# Altium schematic symbol library CHXXX.schlib: 489 symbols (part 6 of 7)
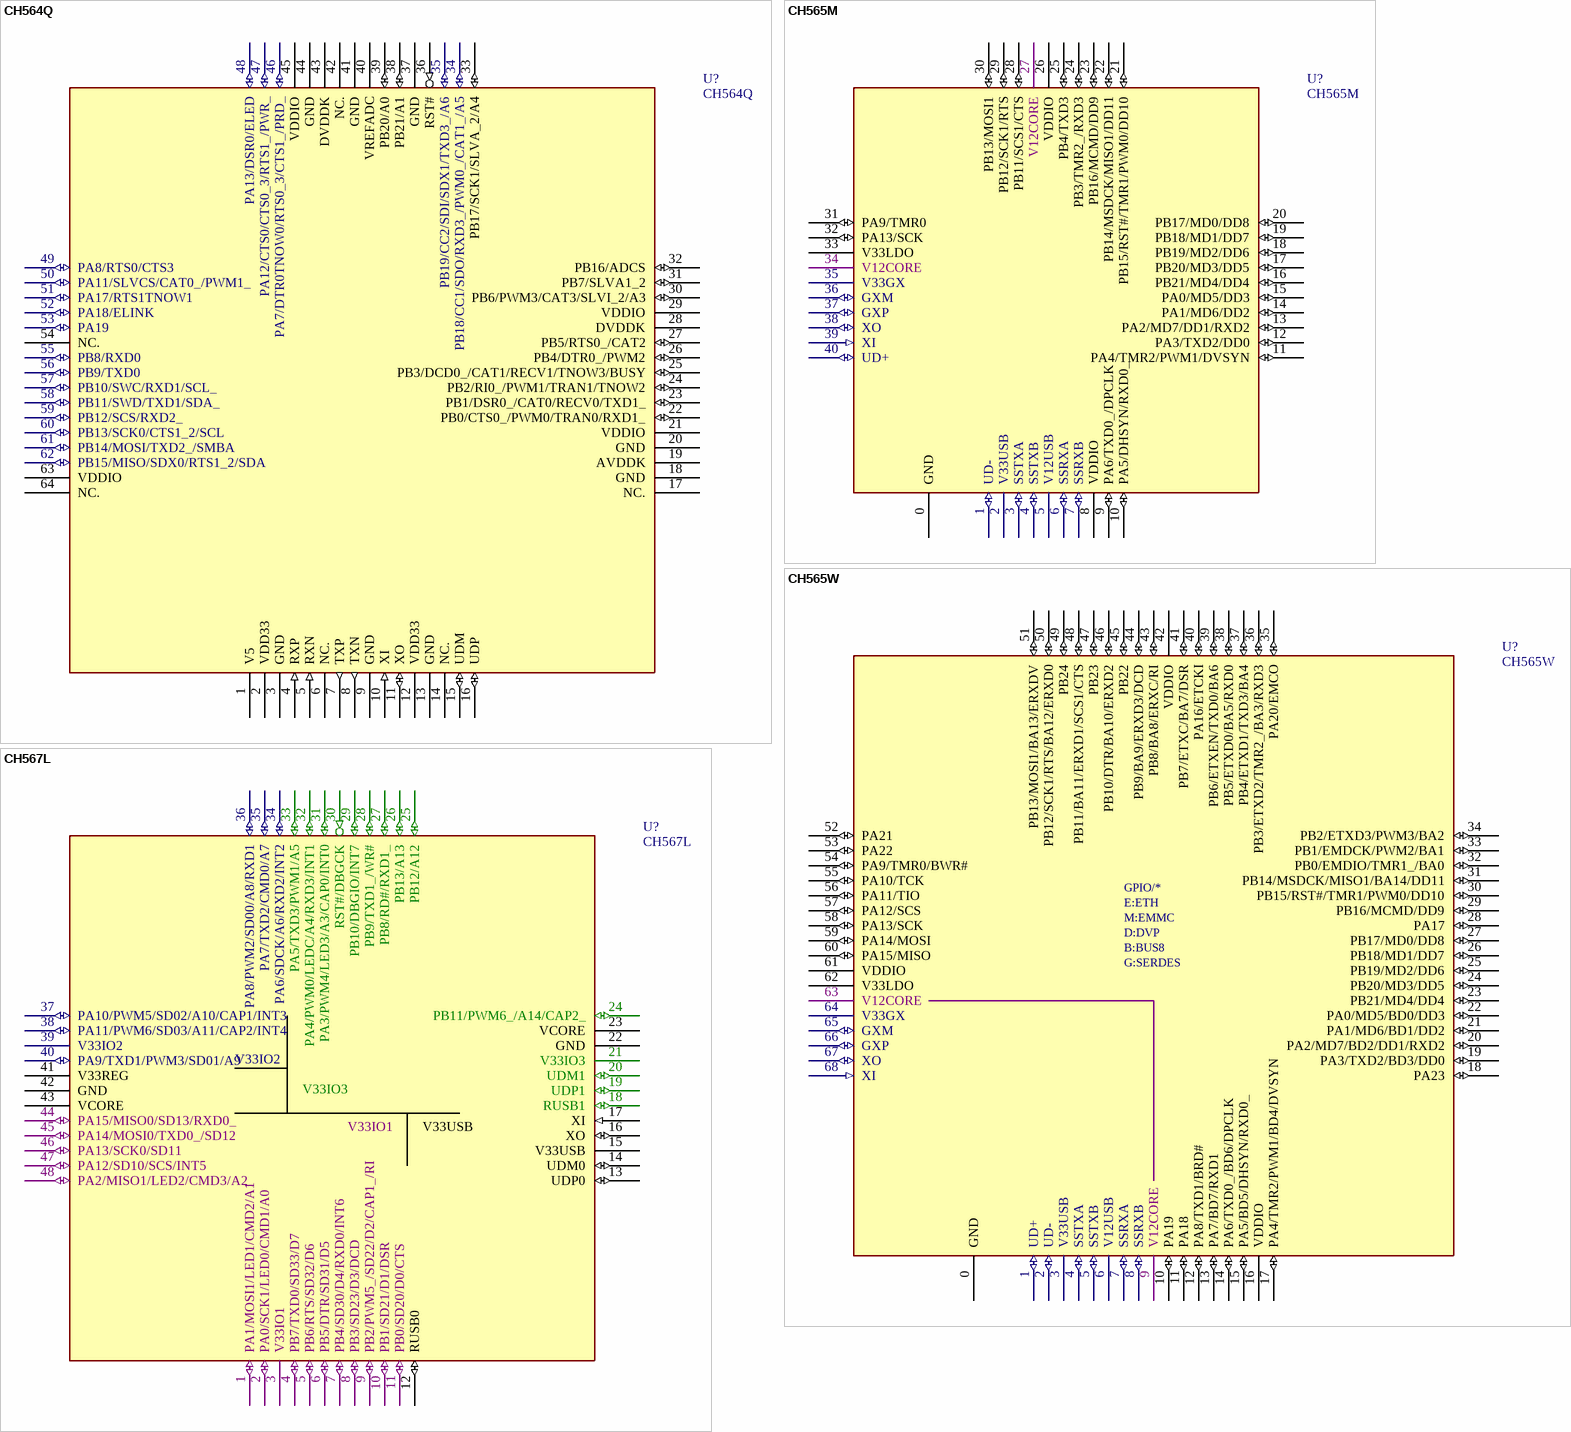
[diagram p67: symbols CH564Q to CH567L]

## CH567L
designator U?
32bit MCU with dual USB OTG 2.0 & quad SDIO & quad UART & AES
footprint LQFP48
pins: 1 PA1/MOSI1/LED1/CMD2/A1 (io), 2 PA0/SCK1/LED0/CMD1/A0 (io), 3 V33IO1 (power), 4 PB7/TXD0/SD33/D7 (io), 5 PB6/RTS/SD32/D6 (io), 6 PB5/DTR/SD31/D5 (io), 7 PB4/SD30/D4/RXD0/INT6 (io), 8 PB3/SD23/D3/DCD (io), 9 PB2/PWM5_/SD22/D2/CAP1_/RI (io), 10 PB1/SD21/D1/DSR (io), 11 PB0/SD20/D0/CTS (io), 12 RUSB0 (io), 13 UDP0 (io), 14 UDM0 (io), 15 V33USB (power), 16 XO (io), 17 XI (in), 18 RUSB1 (io), 19 UDP1 (io), 20 UDM1 (io), 21 V33IO3 (power), 22 GND (power), 23 VCORE (power), 24 PB11/PWM6_/A14/CAP2_ (io), 25 PB12/A12 (io), 26 PB13/A13 (io), 27 PB8/RD#/RXD1_ (io), 28 PB9/TXD1_/WR# (io), 29 PB10/DBGIO/INT7 (io), 30 RST#/DBGCK (in), 31 PA3/PWM4/LED3/A3/CAP0/INT0 (io), 32 PA4/PWM0/LEDC/A4/RXD3/INT1 (io), 33 PA5/TXD3/PWM1/A5 (io), 34 PA6/SDCK/A6/RXD2/INT2 (io), 35 PA7/TXD2/CMD0/A7 (io), 36 PA8/PWM2/SD00/A8/RXD1 (io), 37 PA10/PWM5/SD02/A10/CAP1/INT3 (io), 38 PA11/PWM6/SD03/A11/CAP2/INT4 (io), 39 V33IO2 (power), 40 PA9/TXD1/PWM3/SD01/A9 (io), 41 V33REG (power), 42 GND (power), 43 VCORE (power), 44 PA15/MISO0/SD13/RXD0_ (io), 45 PA14/MOSI0/TXD0_/SD12 (io), 46 PA13/SCK0/SD11 (io), 47 PA12/SD10/SCS/INT5 (io), 48 PA2/MISO1/LED2/CMD3/A2 (io)

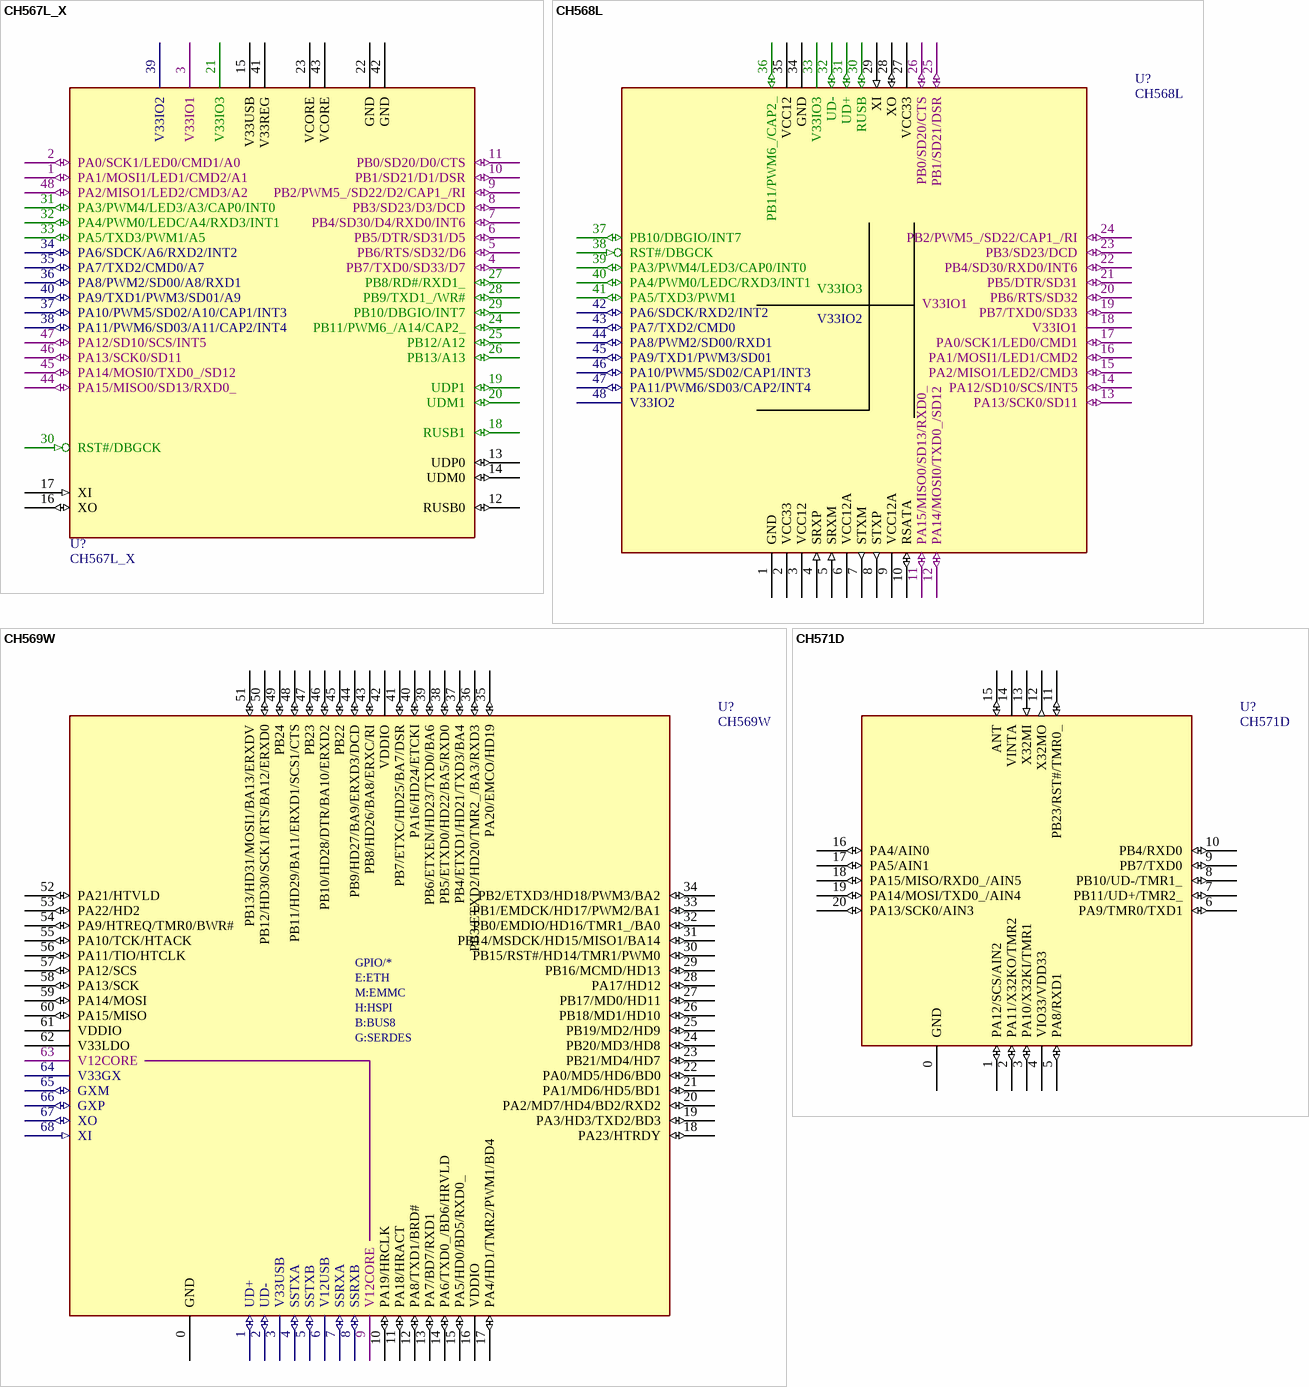
[diagram p46: symbols CH567L_X to CH571D]

## CH567L_X
designator U?
32bit MCU with dual USB OTG 2.0 & quad SDIO & quad UART & AES
footprint LQFP48
pins: 1 PA1/MOSI1/LED1/CMD2/A1 (io), 2 PA0/SCK1/LED0/CMD1/A0 (io), 3 V33IO1 (power), 4 PB7/TXD0/SD33/D7 (io), 5 PB6/RTS/SD32/D6 (io), 6 PB5/DTR/SD31/D5 (io), 7 PB4/SD30/D4/RXD0/INT6 (io), 8 PB3/SD23/D3/DCD (io), 9 PB2/PWM5_/SD22/D2/CAP1_/RI (io), 10 PB1/SD21/D1/DSR (io), 11 PB0/SD20/D0/CTS (io), 12 RUSB0 (io), 13 UDP0 (io), 14 UDM0 (io), 15 V33USB (power), 16 XO (io), 17 XI (in), 18 RUSB1 (io), 19 UDP1 (io), 20 UDM1 (io), 21 V33IO3 (power), 22 GND (power), 23 VCORE (power), 24 PB11/PWM6_/A14/CAP2_ (io), 25 PB12/A12 (io), 26 PB13/A13 (io), 27 PB8/RD#/RXD1_ (io), 28 PB9/TXD1_/WR# (io), 29 PB10/DBGIO/INT7 (io), 30 RST#/DBGCK (in), 31 PA3/PWM4/LED3/A3/CAP0/INT0 (io), 32 PA4/PWM0/LEDC/A4/RXD3/INT1 (io), 33 PA5/TXD3/PWM1/A5 (io), 34 PA6/SDCK/A6/RXD2/INT2 (io), 35 PA7/TXD2/CMD0/A7 (io), 36 PA8/PWM2/SD00/A8/RXD1 (io), 37 PA10/PWM5/SD02/A10/CAP1/INT3 (io), 38 PA11/PWM6/SD03/A11/CAP2/INT4 (io), 39 V33IO2 (power), 40 PA9/TXD1/PWM3/SD01/A9 (io), 41 V33REG (power), 42 GND (power), 43 VCORE (power), 44 PA15/MISO0/SD13/RXD0_ (io), 45 PA14/MOSI0/TXD0_/SD12 (io), 46 PA13/SCK0/SD11 (io), 47 PA12/SD10/SCS/INT5 (io), 48 PA2/MISO1/LED2/CMD3/A2 (io)

## CH568L
designator U?
32bit MCU with USB OTG 2.0 & SATA G2 & quad SDIO & quad UART & AES
footprint LQFP48
pins: 1 GND (power), 2 VCC33 (power), 3 VCC12 (power), 4 SRXP (in), 5 SRXM (in), 6 VCC12A (power), 7 STXM (out), 8 STXP (out), 9 VCC12A (power), 10 RSATA (io), 11 PA15/MISO0/SD13/RXD0_ (io), 12 PA14/MOSI0/TXD0_/SD12 (io), 13 PA13/SCK0/SD11 (io), 14 PA12/SD10/SCS/INT5 (io), 15 PA2/MISO1/LED2/CMD3 (io), 16 PA1/MOSI1/LED1/CMD2 (io), 17 PA0/SCK1/LED0/CMD1 (io), 18 V33IO1 (power), 19 PB7/TXD0/SD33 (io), 20 PB6/RTS/SD32 (io), 21 PB5/DTR/SD31 (io), 22 PB4/SD30/RXD0/INT6 (io), 23 PB3/SD23/DCD (io), 24 PB2/PWM5_/SD22/CAP1_/RI (io), 25 PB1/SD21/DSR (io), 26 PB0/SD20/CTS (io), 27 VCC33 (power), 28 XO (io), 29 XI (in), 30 RUSB (io), 31 UD+ (io), 32 UD- (io), 33 V33IO3 (power), 34 GND (power), 35 VCC12 (power), 36 PB11/PWM6_/CAP2_ (io), 37 PB10/DBGIO/INT7 (io), 38 RST#/DBGCK (in), 39 PA3/PWM4/LED3/CAP0/INT0 (io), 40 PA4/PWM0/LEDC/RXD3/INT1 (io), 41 PA5/TXD3/PWM1 (io), 42 PA6/SDCK/RXD2/INT2 (io), 43 PA7/TXD2/CMD0 (io), 44 PA8/PWM2/SD00/RXD1 (io), 45 PA9/TXD1/PWM3/SD01 (io), 46 PA10/PWM5/SD02/CAP1/INT3 (io), 47 PA11/PWM6/SD03/CAP2/INT4 (io), 48 V33IO2 (power)

## CH569W
designator U?
32bit RISC-V MCU with USB 3.0 SS/HS & 4*UART & ETH & HSPI
footprint QFN68_8X8
pins: 0 GND (power), 1 UD+ (io), 2 UD- (io), 3 V33USB (power), 4 SSTXA (io), 5 SSTXB (io), 6 V12USB (power), 7 SSRXA (io), 8 SSRXB (io), 9 V12CORE (power), 10 PA19/HRCLK (io), 11 PA18/HRACT (io), 12 PA8/TXD1/BRD# (io), 13 PA7/BD7/RXD1 (io), 14 PA6/TXD0_/BD6/HRVLD (io), 15 PA5/HD0/BD5/RXD0_ (io), 16 VDDIO (power), 17 PA4/HD1/TMR2/PWM1/BD4 (io), 18 PA23/HTRDY (io), 19 PA3/HD3/TXD2/BD3 (io), 20 PA2/MD7/HD4/BD2/RXD2 (io), 21 PA1/MD6/HD5/BD1 (io), 22 PA0/MD5/HD6/BD0 (io), 23 PB21/MD4/HD7 (io), 24 PB20/MD3/HD8 (io), 25 PB19/MD2/HD9 (io), 26 PB18/MD1/HD10 (io), 27 PB17/MD0/HD11 (io), 28 PA17/HD12 (io), 29 PB16/MCMD/HD13 (io), 30 PB15/RST#/HD14/TMR1/PWM0 (io), 31 PB14/MSDCK/HD15/MISO1/BA14 (io), 32 PB0/EMDIO/HD16/TMR1_/BA0 (io), 33 PB1/EMDCK/HD17/PWM2/BA1 (io), 34 PB2/ETXD3/HD18/PWM3/BA2 (io), 35 PA20/EMCO/HD19 (io), 36 PB3/ETXD2/HD20/TMR2_/BA3/RXD3 (io), 37 PB4/ETXD1/HD21/TXD3/BA4 (io), 38 PB5/ETXD0/HD22/BA5/RXD0 (io), 39 PB6/ETXEN/HD23/TXD0/BA6 (io), 40 PA16/HD24/ETCKI (io), 41 PB7/ETXC/HD25/BA7/DSR (io), 42 VDDIO (power), 43 PB8/HD26/BA8/ERXC/RI (io), 44 PB9/HD27/BA9/ERXD3/DCD (io), 45 PB22 (io), 46 PB10/HD28/DTR/BA10/ERXD2 (io), 47 PB23 (io), 48 PB11/HD29/BA11/ERXD1/SCS1/CTS (io), 49 PB24 (io), 50 PB12/HD30/SCK1/RTS/BA12/ERXD0 (io), 51 PB13/HD31/MOSI1/BA13/ERXDV (io), 52 PA21/HTVLD (io), 53 PA22/HD2 (io), 54 PA9/HTREQ/TMR0/BWR# (io), 55 PA10/TCK/HTACK (io), 56 PA11/TIO/HTCLK (io), 57 PA12/SCS (io), 58 PA13/SCK (io), 59 PA14/MOSI (io), 60 PA15/MISO (io), 61 VDDIO (power), 62 V33LDO (power), 63 V12CORE (power), 64 V33GX (power), 65 GXM (io), 66 GXP (io), 67 XO (io), 68 XI (in)
2 alternate drawings of the same symbol
text: GPIO/*; E:ETH; M:EMMC; H:HSPI; B:BUS8; G:SERDES

## CH571D
designator U?
RISC-V MCU with BLE/USB/ADC/SPI/2*UART
footprint QFN20_3X3
pins: 0 GND (power), 1 PA12/SCS/AIN2 (io), 2 PA11/X32KO/TMR2 (io), 3 PA10/X32KI/TMR1 (io), 4 VIO33/VDD33 (power), 5 PA8/RXD1 (io), 6 PA9/TMR0/TXD1 (io), 7 PB11/UD+/TMR2_ (io), 8 PB10/UD-/TMR1_ (io), 9 PB7/TXD0 (io), 10 PB4/RXD0 (io), 11 PB23/RST#/TMR0_ (io), 12 X32MO (out), 13 X32MI (in), 14 VINTA (power), 15 ANT (io), 16 PA4/AIN0 (io), 17 PA5/AIN1 (io), 18 PA15/MISO/RXD0_/AIN5 (io), 19 PA14/MOSI/TXD0_/AIN4 (io), 20 PA13/SCK0/AIN3 (io)
2 alternate drawings of the same symbol

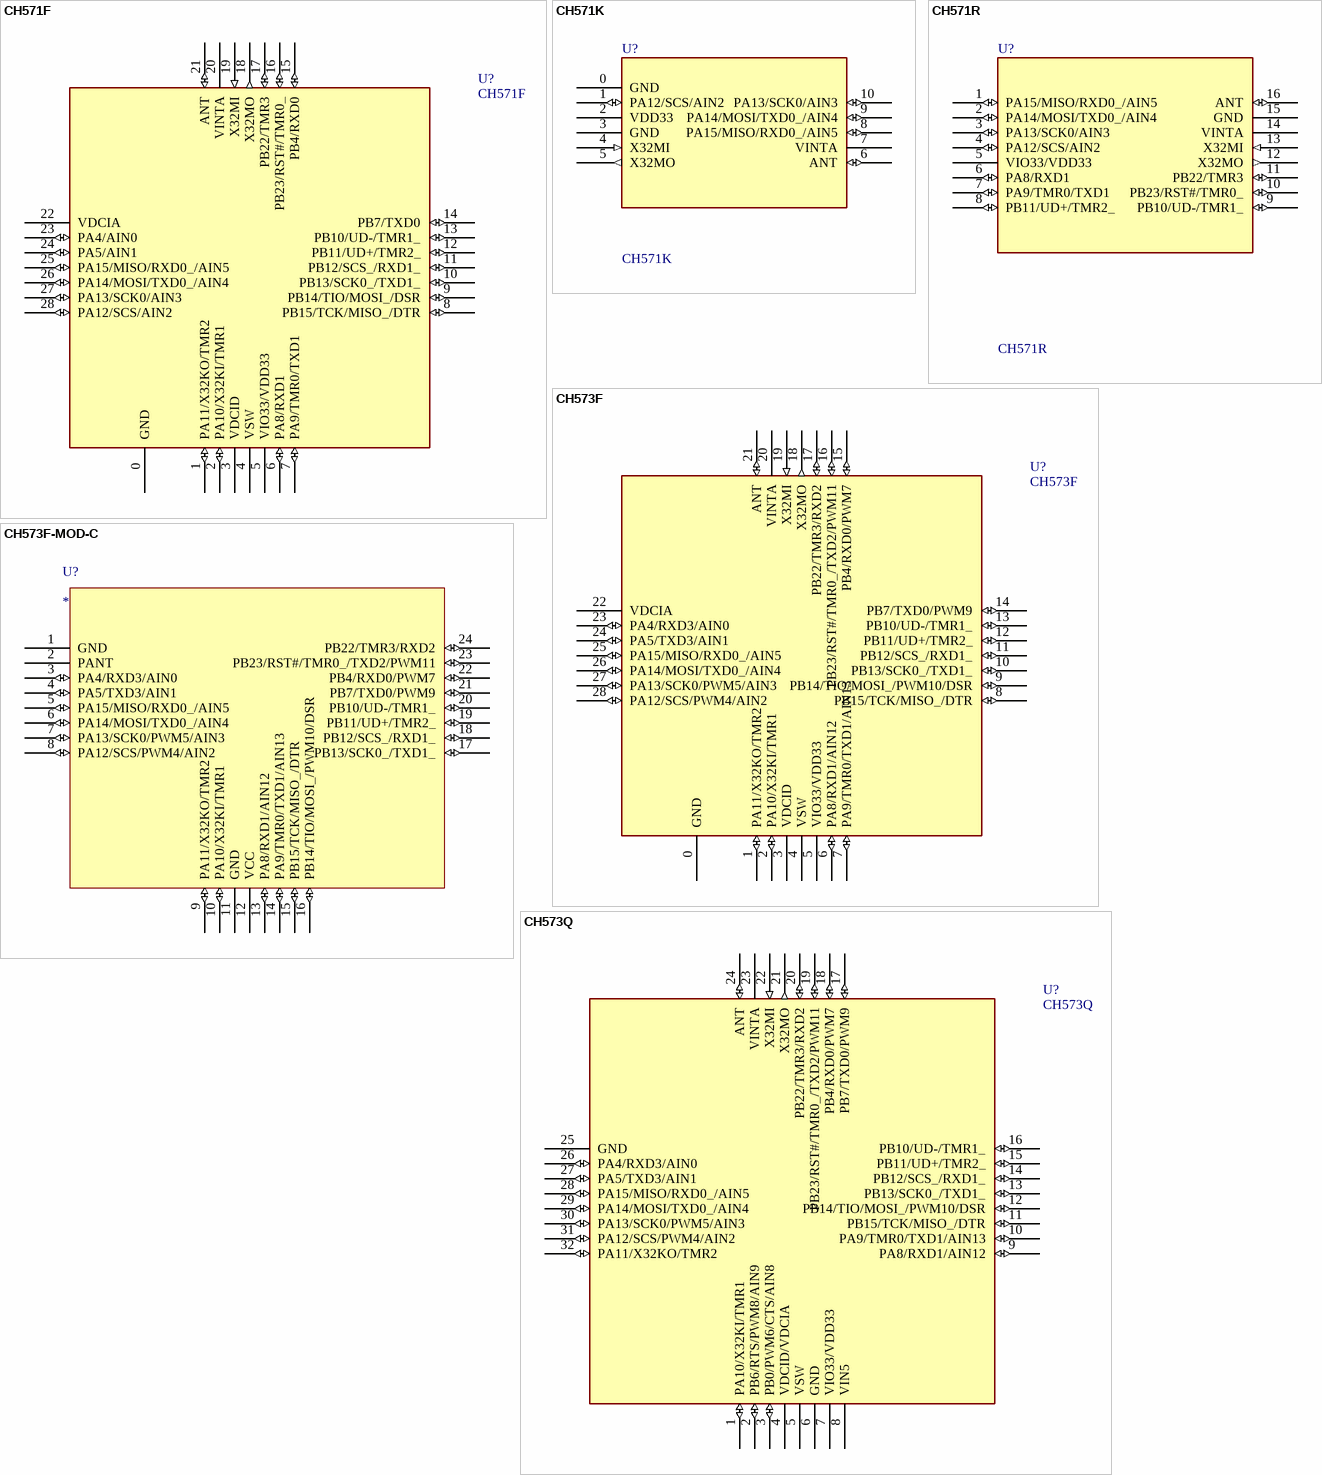
[diagram p47: symbols CH571F to CH573Q]

## CH571F
designator U?
RISC-V MCU with BLE/USB/ADC/SPI/2*UART
footprint QFN28_4X4
pins: 0 GND (power), 1 PA11/X32KO/TMR2 (io), 2 PA10/X32KI/TMR1 (io), 3 VDCID (power), 4 VSW (power), 5 VIO33/VDD33 (power), 6 PA8/RXD1 (io), 7 PA9/TMR0/TXD1 (io), 8 PB15/TCK/MISO_/DTR (io), 9 PB14/TIO/MOSI_/DSR (io), 10 PB13/SCK0_/TXD1_ (io), 11 PB12/SCS_/RXD1_ (io), 12 PB11/UD+/TMR2_ (io), 13 PB10/UD-/TMR1_ (io), 14 PB7/TXD0 (io), 15 PB4/RXD0 (io), 16 PB23/RST#/TMR0_ (io), 17 PB22/TMR3 (io), 18 X32MO (out), 19 X32MI (in), 20 VINTA (power), 21 ANT (io), 22 VDCIA (power), 23 PA4/AIN0 (io), 24 PA5/AIN1 (io), 25 PA15/MISO/RXD0_/AIN5 (io), 26 PA14/MOSI/TXD0_/AIN4 (io), 27 PA13/SCK0/AIN3 (io), 28 PA12/SCS/AIN2 (io)
2 alternate drawings of the same symbol

## CH571K
designator U?
RISC-V MCU with BLE/ADC/SPI/UART
footprint ESSOP10 (Footprint not found)
pins: 0 GND (power), 1 PA12/SCS/AIN2 (io), 2 VDD33 (power), 3 GND (power), 4 X32MI (in), 5 X32MO (out), 6 ANT (io), 7 VINTA (power), 8 PA15/MISO/RXD0_/AIN5 (io), 9 PA14/MOSI/TXD0_/AIN4 (io), 10 PA13/SCK0/AIN3 (io)
2 alternate drawings of the same symbol

## CH571R
designator U?
RISC-V MCU with BLE/USB/ADC/SPI/2*UART
footprint TSSOP16 (Footprint not found)
pins: 1 PA15/MISO/RXD0_/AIN5 (io), 2 PA14/MOSI/TXD0_/AIN4 (io), 3 PA13/SCK0/AIN3 (io), 4 PA12/SCS/AIN2 (io), 5 VIO33/VDD33 (power), 6 PA8/RXD1 (io), 7 PA9/TMR0/TXD1 (io), 8 PB11/UD+/TMR2_ (io), 9 PB10/UD-/TMR1_ (io), 10 PB23/RST#/TMR0_ (io), 11 PB22/TMR3 (io), 12 X32MO (out), 13 X32MI (in), 14 VINTA (power), 15 GND (power), 16 ANT (io)
2 alternate drawings of the same symbol

## CH573F
designator U?
RISC-V MCU with BLE/USB/ADC/SPI/4*UART
footprint QFN28_4X4
pins: 0 GND (power), 1 PA11/X32KO/TMR2 (io), 2 PA10/X32KI/TMR1 (io), 3 VDCID (power), 4 VSW (power), 5 VIO33/VDD33 (power), 6 PA8/RXD1/AIN12 (io), 7 PA9/TMR0/TXD1/AIN13 (io), 8 PB15/TCK/MISO_/DTR (io), 9 PB14/TIO/MOSI_/PWM10/DSR (io), 10 PB13/SCK0_/TXD1_ (io), 11 PB12/SCS_/RXD1_ (io), 12 PB11/UD+/TMR2_ (io), 13 PB10/UD-/TMR1_ (io), 14 PB7/TXD0/PWM9 (io), 15 PB4/RXD0/PWM7 (io), 16 PB23/RST#/TMR0_/TXD2/PWM11 (io), 17 PB22/TMR3/RXD2 (io), 18 X32MO (out), 19 X32MI (in), 20 VINTA (power), 21 ANT (io), 22 VDCIA (power), 23 PA4/RXD3/AIN0 (io), 24 PA5/TXD3/AIN1 (io), 25 PA15/MISO/RXD0_/AIN5 (io), 26 PA14/MOSI/TXD0_/AIN4 (io), 27 PA13/SCK0/PWM5/AIN3 (io), 28 PA12/SCS/PWM4/AIN2 (io)
2 alternate drawings of the same symbol

## CH573F-MOD-C
designator U?
CH573F module, RISC-V MCU with BLE/USB/ADC/SPI/4*UART
footprint BLEMOD-R2-1v0-24PIN
pins: 1 GND (power), 2 PANT, 3 PA4/RXD3/AIN0  (io), 4 PA5/TXD3/AIN1   (io), 5 PA15/MISO/RXD0_/AIN5   (io), 6 PA14/MOSI/TXD0_/AIN4 (io), 7 PA13/SCK0/PWM5/AIN3   (io), 8 PA12/SCS/PWM4/AIN2   (io), 9 PA11/X32KO/TMR2   (io), 10 PA10/X32KI/TMR1   (io), 11 GND (power), 12 VCC (power), 13 PA8/RXD1/AIN12   (io), 14 PA9/TMR0/TXD1/AIN13  (io), 15 PB15/TCK/MISO_/DTR (io), 16 PB14/TIO/MOSI_/PWM10/DSR (io), 17 PB13/SCK0_/TXD1_ (io), 18 PB12/SCS_/RXD1_ (io), 19 PB11/UD+/TMR2_ (io), 20 PB10/UD-/TMR1_ (io), 21 PB7/TXD0/PWM9 (io), 22 PB4/RXD0/PWM7 (io), 23 PB23/RST#/TMR0_/TXD2/PWM11 (io), 24 PB22/TMR3/RXD2 (io)

## CH573Q
designator U?
RISC-V MCU with BLE/USB/ADC/SPI/4*UART
footprint LQFP32 (Footprint not found)
pins: 1 PA10/X32KI/TMR1 (io), 2 PB6/RTS/PWM8/AIN9 (io), 3 PB0/PWM6/CTS/AIN8 (io), 4 VDCID/VDCIA (power), 5 VSW (power), 6 GND (power), 7 VIO33/VDD33 (power), 8 VIN5 (power), 9 PA8/RXD1/AIN12 (io), 10 PA9/TMR0/TXD1/AIN13 (io), 11 PB15/TCK/MISO_/DTR (io), 12 PB14/TIO/MOSI_/PWM10/DSR (io), 13 PB13/SCK0_/TXD1_ (io), 14 PB12/SCS_/RXD1_ (io), 15 PB11/UD+/TMR2_ (io), 16 PB10/UD-/TMR1_ (io), 17 PB7/TXD0/PWM9 (io), 18 PB4/RXD0/PWM7 (io), 19 PB23/RST#/TMR0_/TXD2/PWM11 (io), 20 PB22/TMR3/RXD2 (io), 21 X32MO (out), 22 X32MI (in), 23 VINTA (power), 24 ANT (io), 25 GND (power), 26 PA4/RXD3/AIN0 (io), 27 PA5/TXD3/AIN1 (io), 28 PA15/MISO/RXD0_/AIN5 (io), 29 PA14/MOSI/TXD0_/AIN4 (io), 30 PA13/SCK0/PWM5/AIN3 (io), 31 PA12/SCS/PWM4/AIN2 (io), 32 PA11/X32KO/TMR2 (io)
2 alternate drawings of the same symbol

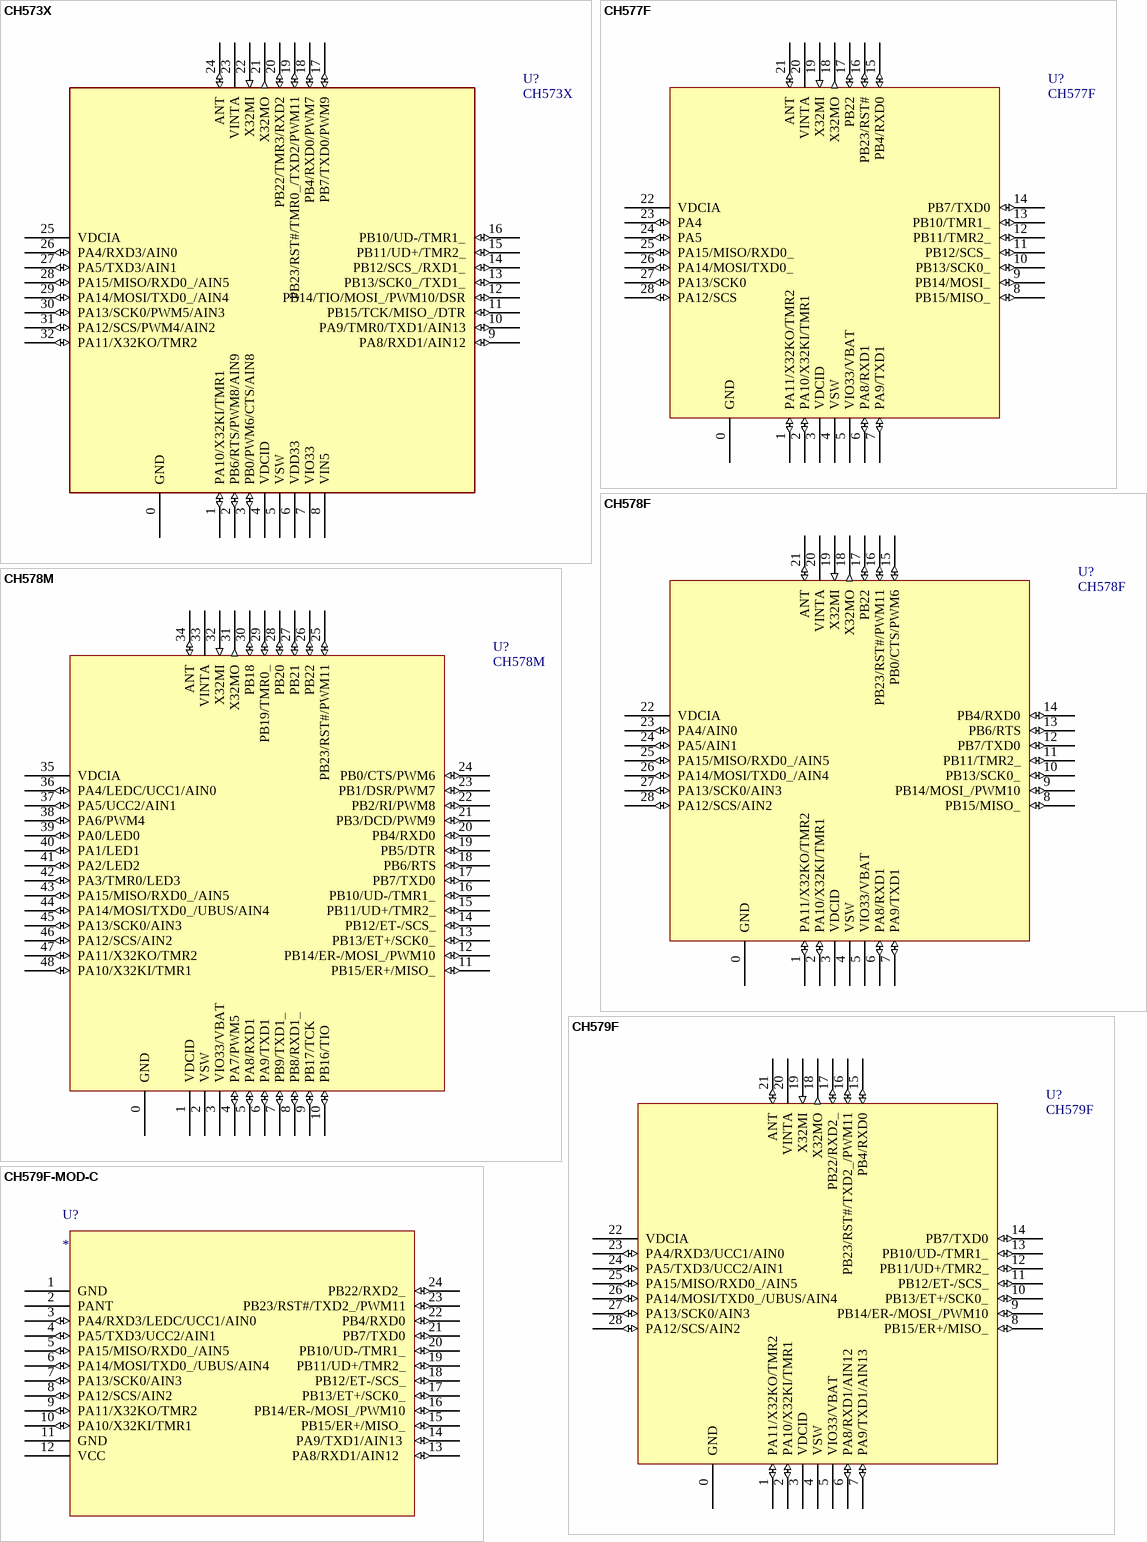
[diagram p48: symbols CH573X to CH579F-MOD-C]

## CH573X
designator U?
RISC-V MCU with BLE/USB/ADC/SPI/4*UART
footprint QFN32_4X4
pins: 0 GND (power), 1 PA10/X32KI/TMR1 (io), 2 PB6/RTS/PWM8/AIN9 (io), 3 PB0/PWM6/CTS/AIN8 (io), 4 VDCID (power), 5 VSW (power), 6 VDD33 (power), 7 VIO33 (power), 8 VIN5 (power), 9 PA8/RXD1/AIN12 (io), 10 PA9/TMR0/TXD1/AIN13 (io), 11 PB15/TCK/MISO_/DTR (io), 12 PB14/TIO/MOSI_/PWM10/DSR (io), 13 PB13/SCK0_/TXD1_ (io), 14 PB12/SCS_/RXD1_ (io), 15 PB11/UD+/TMR2_ (io), 16 PB10/UD-/TMR1_ (io), 17 PB7/TXD0/PWM9 (io), 18 PB4/RXD0/PWM7 (io), 19 PB23/RST#/TMR0_/TXD2/PWM11 (io), 20 PB22/TMR3/RXD2 (io), 21 X32MO (out), 22 X32MI (in), 23 VINTA (power), 24 ANT (io), 25 VDCIA (power), 26 PA4/RXD3/AIN0 (io), 27 PA5/TXD3/AIN1 (io), 28 PA15/MISO/RXD0_/AIN5 (io), 29 PA14/MOSI/TXD0_/AIN4 (io), 30 PA13/SCK0/PWM5/AIN3 (io), 31 PA12/SCS/PWM4/AIN2 (io), 32 PA11/X32KO/TMR2 (io)
2 alternate drawings of the same symbol

## CH577F
designator U?
ARM M0 MCU with Bluetooth-LowEnergy+doubleUART+SPI
footprint QFN28_4X4
pins: 0 GND (power), 1 PA11/X32KO/TMR2 (io), 2 PA10/X32KI/TMR1 (io), 3 VDCID (power), 4 VSW (power), 5 VIO33/VBAT (power), 6 PA8/RXD1 (io), 7 PA9/TXD1 (io), 8 PB15/MISO_ (io), 9 PB14/MOSI_ (io), 10 PB13/SCK0_ (io), 11 PB12/SCS_ (io), 12 PB11/TMR2_ (io), 13 PB10/TMR1_ (io), 14 PB7/TXD0 (io), 15 PB4/RXD0 (io), 16 PB23/RST# (io), 17 PB22 (io), 18 X32MO (out), 19 X32MI (in), 20 VINTA (power), 21 ANT (io), 22 VDCIA (power), 23 PA4 (io), 24 PA5 (io), 25 PA15/MISO/RXD0_ (io), 26 PA14/MOSI/TXD0_ (io), 27 PA13/SCK0 (io), 28 PA12/SCS (io)

## CH578F
designator U?
ARM M0 MCU with Bluetooth-LowEnergy+doubleUART+SPI+ADC
footprint QFN28_4X4
pins: 0 GND (power), 1 PA11/X32KO/TMR2 (io), 2 PA10/X32KI/TMR1 (io), 3 VDCID (power), 4 VSW (power), 5 VIO33/VBAT (power), 6 PA8/RXD1 (io), 7 PA9/TXD1 (io), 8 PB15/MISO_ (io), 9 PB14/MOSI_/PWM10 (io), 10 PB13/SCK0_ (io), 11 PB11/TMR2_ (io), 12 PB7/TXD0 (io), 13 PB6/RTS (io), 14 PB4/RXD0 (io), 15 PB0/CTS/PWM6 (io), 16 PB23/RST#/PWM11 (io), 17 PB22 (io), 18 X32MO (out), 19 X32MI (in), 20 VINTA (power), 21 ANT (io), 22 VDCIA (power), 23 PA4/AIN0 (io), 24 PA5/AIN1 (io), 25 PA15/MISO/RXD0_/AIN5 (io), 26 PA14/MOSI/TXD0_/AIN4 (io), 27 PA13/SCK0/AIN3 (io), 28 PA12/SCS/AIN2 (io)

## CH578M
designator U?
ARM M0 MCU with Bluetooth-LowEnergy+Ethernet+USB+segment-LCD
footprint QFN48_5X5
pins: 0 GND (power), 1 VDCID (power), 2 VSW (power), 3 VIO33/VBAT (power), 4 PA7/PWM5 (io), 5 PA8/RXD1 (io), 6 PA9/TXD1 (io), 7 PB9/TXD1_ (io), 8 PB8/RXD1_ (io), 9 PB17/TCK (io), 10 PB16/TIO (io), 11 PB15/ER+/MISO_ (io), 12 PB14/ER-/MOSI_/PWM10 (io), 13 PB13/ET+/SCK0_ (io), 14 PB12/ET-/SCS_ (io), 15 PB11/UD+/TMR2_ (io), 16 PB10/UD-/TMR1_ (io), 17 PB7/TXD0 (io), 18 PB6/RTS (io), 19 PB5/DTR (io), 20 PB4/RXD0 (io), 21 PB3/DCD/PWM9 (io), 22 PB2/RI/PWM8 (io), 23 PB1/DSR/PWM7 (io), 24 PB0/CTS/PWM6 (io), 25 PB23/RST#/PWM11 (io), 26 PB22 (io), 27 PB21 (io), 28 PB20 (io), 29 PB19/TMR0_ (io), 30 PB18 (io), 31 X32MO (out), 32 X32MI (in), 33 VINTA (power), 34 ANT (io), 35 VDCIA (power), 36 PA4/LEDC/UCC1/AIN0 (io), 37 PA5/UCC2/AIN1 (io), 38 PA6/PWM4 (io), 39 PA0/LED0 (io), 40 PA1/LED1 (io), 41 PA2/LED2 (io), 42 PA3/TMR0/LED3 (io), 43 PA15/MISO/RXD0_/AIN5 (io), 44 PA14/MOSI/TXD0_/UBUS/AIN4 (io), 45 PA13/SCK0/AIN3 (io), 46 PA12/SCS/AIN2 (io), 47 PA11/X32KO/TMR2 (io), 48 PA10/X32KI/TMR1 (io)

## CH579F
designator U?
ARM M0 MCU with Bluetooth-LowEnergy+Ethernet+USB Host/Device
footprint QFN28_4X4
pins: 0 GND (power), 1 PA11/X32KO/TMR2 (io), 2 PA10/X32KI/TMR1 (io), 3 VDCID (power), 4 VSW (power), 5 VIO33/VBAT (power), 6 PA8/RXD1/AIN12 (io), 7 PA9/TXD1/AIN13 (io), 8 PB15/ER+/MISO_ (io), 9 PB14/ER-/MOSI_/PWM10 (io), 10 PB13/ET+/SCK0_ (io), 11 PB12/ET-/SCS_ (io), 12 PB11/UD+/TMR2_ (io), 13 PB10/UD-/TMR1_ (io), 14 PB7/TXD0 (io), 15 PB4/RXD0 (io), 16 PB23/RST#/TXD2_/PWM11 (io), 17 PB22/RXD2_ (io), 18 X32MO (out), 19 X32MI (in), 20 VINTA (power), 21 ANT (io), 22 VDCIA (power), 23 PA4/RXD3/UCC1/AIN0 (io), 24 PA5/TXD3/UCC2/AIN1 (io), 25 PA15/MISO/RXD0_/AIN5 (io), 26 PA14/MOSI/TXD0_/UBUS/AIN4 (io), 27 PA13/SCK0/AIN3 (io), 28 PA12/SCS/AIN2 (io)

## CH579F-MOD-C
designator U?
CH579F module, ARM M0 MCU with BLE+Ethernet+USB Host/Device
footprint BLEMOD-R2-1v0-24PIN
pins: 1 GND (power), 2 PANT, 3 PA4/RXD3/LEDC/UCC1/AIN0  (io), 4 PA5/TXD3/UCC2/AIN1   (io), 5 PA15/MISO/RXD0_/AIN5   (io), 6 PA14/MOSI/TXD0_/UBUS/AIN4 (io), 7 PA13/SCK0/AIN3   (io), 8 PA12/SCS/AIN2   (io), 9 PA11/X32KO/TMR2   (io), 10 PA10/X32KI/TMR1   (io), 11 GND (power), 12 VCC (power), 13 PA8/RXD1/AIN12   (io), 14 PA9/TXD1/AIN13  (io), 15 PB15/ER+/MISO_ (io), 16 PB14/ER-/MOSI_/PWM10 (io), 17 PB13/ET+/SCK0_ (io), 18 PB12/ET-/SCS_ (io), 19 PB11/UD+/TMR2_ (io), 20 PB10/UD-/TMR1_ (io), 21 PB7/TXD0 (io), 22 PB4/RXD0 (io), 23 PB23/RST#/TXD2_/PWM11 (io), 24 PB22/RXD2_ (io)

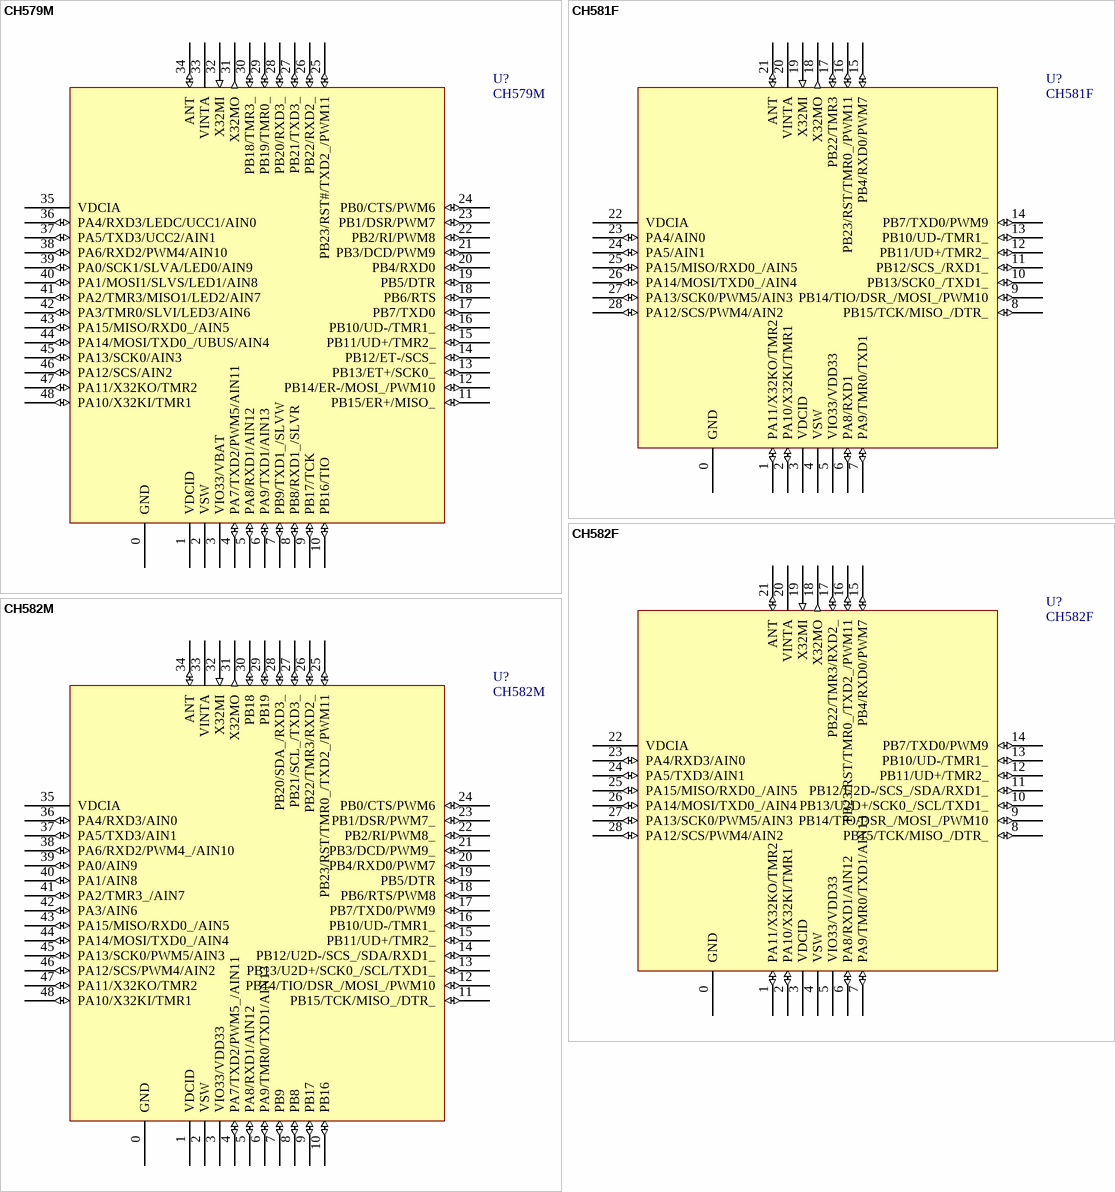
[diagram p49: symbols CH579M to CH582M]

## CH579M
designator U?
ARM M0 MCU with Bluetooth-LowEnergy+Ethernet+USB+segment-LCD
footprint QFN48_5X5
pins: 0 GND (power), 1 VDCID (power), 2 VSW (power), 3 VIO33/VBAT (power), 4 PA7/TXD2/PWM5/AIN11 (io), 5 PA8/RXD1/AIN12 (io), 6 PA9/TXD1/AIN13 (io), 7 PB9/TXD1_/SLVW (io), 8 PB8/RXD1_/SLVR (io), 9 PB17/TCK (io), 10 PB16/TIO (io), 11 PB15/ER+/MISO_ (io), 12 PB14/ER-/MOSI_/PWM10 (io), 13 PB13/ET+/SCK0_ (io), 14 PB12/ET-/SCS_ (io), 15 PB11/UD+/TMR2_ (io), 16 PB10/UD-/TMR1_ (io), 17 PB7/TXD0 (io), 18 PB6/RTS (io), 19 PB5/DTR (io), 20 PB4/RXD0 (io), 21 PB3/DCD/PWM9 (io), 22 PB2/RI/PWM8 (io), 23 PB1/DSR/PWM7 (io), 24 PB0/CTS/PWM6 (io), 25 PB23/RST#/TXD2_/PWM11 (io), 26 PB22/RXD2_ (io), 27 PB21/TXD3_ (io), 28 PB20/RXD3_ (io), 29 PB19/TMR0_ (io), 30 PB18/TMR3_ (io), 31 X32MO (out), 32 X32MI (in), 33 VINTA (power), 34 ANT (io), 35 VDCIA (power), 36 PA4/RXD3/LEDC/UCC1/AIN0 (io), 37 PA5/TXD3/UCC2/AIN1 (io), 38 PA6/RXD2/PWM4/AIN10 (io), 39 PA0/SCK1/SLVA/LED0/AIN9 (io), 40 PA1/MOSI1/SLVS/LED1/AIN8 (io), 41 PA2/TMR3/MISO1/LED2/AIN7 (io), 42 PA3/TMR0/SLVI/LED3/AIN6 (io), 43 PA15/MISO/RXD0_/AIN5 (io), 44 PA14/MOSI/TXD0_/UBUS/AIN4 (io), 45 PA13/SCK0/AIN3 (io), 46 PA12/SCS/AIN2 (io), 47 PA11/X32KO/TMR2 (io), 48 PA10/X32KI/TMR1 (io)

## CH581F
designator U?
RISC-V MCU with BLE/USB/ADC/PWM/SPI/2*UART
footprint QFN28_4X4
pins: 0 GND (power), 1 PA11/X32KO/TMR2 (io), 2 PA10/X32KI/TMR1 (io), 3 VDCID (power), 4 VSW (power), 5 VIO33/VDD33 (power), 6 PA8/RXD1 (io), 7 PA9/TMR0/TXD1 (io), 8 PB15/TCK/MISO_/DTR_ (io), 9 PB14/TIO/DSR_/MOSI_/PWM10 (io), 10 PB13/SCK0_/TXD1_ (io), 11 PB12/SCS_/RXD1_ (io), 12 PB11/UD+/TMR2_ (io), 13 PB10/UD-/TMR1_ (io), 14 PB7/TXD0/PWM9 (io), 15 PB4/RXD0/PWM7 (io), 16 PB23/RST/TMR0_/PWM11 (io), 17 PB22/TMR3 (io), 18 X32MO (out), 19 X32MI (in), 20 VINTA (power), 21 ANT (io), 22 VDCIA (power), 23 PA4/AIN0 (io), 24 PA5/AIN1 (io), 25 PA15/MISO/RXD0_/AIN5 (io), 26 PA14/MOSI/TXD0_/AIN4 (io), 27 PA13/SCK0/PWM5/AIN3 (io), 28 PA12/SCS/PWM4/AIN2 (io)

## CH582F
designator U?
RISC-V MCU with BLE/2*USB/ADC/PWM/SPI/I2C/4*UART
footprint QFN28_4X4
pins: 0 GND (power), 1 PA11/X32KO/TMR2 (io), 2 PA10/X32KI/TMR1 (io), 3 VDCID (power), 4 VSW (power), 5 VIO33/VDD33 (power), 6 PA8/RXD1/AIN12 (io), 7 PA9/TMR0/TXD1/AIN13 (io), 8 PB15/TCK/MISO_/DTR_ (io), 9 PB14/TIO/DSR_/MOSI_/PWM10 (io), 10 PB13/U2D+/SCK0_/SCL/TXD1_ (io), 11 PB12/U2D-/SCS_/SDA/RXD1_ (io), 12 PB11/UD+/TMR2_ (io), 13 PB10/UD-/TMR1_ (io), 14 PB7/TXD0/PWM9 (io), 15 PB4/RXD0/PWM7 (io), 16 PB23/RST/TMR0_/TXD2_/PWM11 (io), 17 PB22/TMR3/RXD2_ (io), 18 X32MO (out), 19 X32MI (in), 20 VINTA (power), 21 ANT (io), 22 VDCIA (power), 23 PA4/RXD3/AIN0 (io), 24 PA5/TXD3/AIN1 (io), 25 PA15/MISO/RXD0_/AIN5 (io), 26 PA14/MOSI/TXD0_/AIN4 (io), 27 PA13/SCK0/PWM5/AIN3 (io), 28 PA12/SCS/PWM4/AIN2 (io)

## CH582M
designator U?
RISC-V MCU with BLE/2*USB/ADC/PWM/SPI/I2C/4*UART
footprint QFN48_5X5
pins: 0 GND (power), 1 VDCID (power), 2 VSW (power), 3 VIO33/VDD33 (power), 4 PA7/TXD2/PWM5_/AIN11 (io), 5 PA8/RXD1/AIN12 (io), 6 PA9/TMR0/TXD1/AIN13 (io), 7 PB9 (io), 8 PB8 (io), 9 PB17 (io), 10 PB16 (io), 11 PB15/TCK/MISO_/DTR_ (io), 12 PB14/TIO/DSR_/MOSI_/PWM10 (io), 13 PB13/U2D+/SCK0_/SCL/TXD1_ (io), 14 PB12/U2D-/SCS_/SDA/RXD1_ (io), 15 PB11/UD+/TMR2_ (io), 16 PB10/UD-/TMR1_ (io), 17 PB7/TXD0/PWM9 (io), 18 PB6/RTS/PWM8 (io), 19 PB5/DTR (io), 20 PB4/RXD0/PWM7 (io), 21 PB3/DCD/PWM9_ (io), 22 PB2/RI/PWM8_ (io), 23 PB1/DSR/PWM7_ (io), 24 PB0/CTS/PWM6 (io), 25 PB23/RST/TMR0_/TXD2_/PWM11 (io), 26 PB22/TMR3/RXD2_ (io), 27 PB21/SCL_/TXD3_ (io), 28 PB20/SDA_/RXD3_ (io), 29 PB19 (io), 30 PB18 (io), 31 X32MO (out), 32 X32MI (in), 33 VINTA (power), 34 ANT (io), 35 VDCIA (power), 36 PA4/RXD3/AIN0 (io), 37 PA5/TXD3/AIN1 (io), 38 PA6/RXD2/PWM4_/AIN10 (io), 39 PA0/AIN9 (io), 40 PA1/AIN8 (io), 41 PA2/TMR3_/AIN7 (io), 42 PA3/AIN6 (io), 43 PA15/MISO/RXD0_/AIN5 (io), 44 PA14/MOSI/TXD0_/AIN4 (io), 45 PA13/SCK0/PWM5/AIN3 (io), 46 PA12/SCS/PWM4/AIN2 (io), 47 PA11/X32KO/TMR2 (io), 48 PA10/X32KI/TMR1 (io)

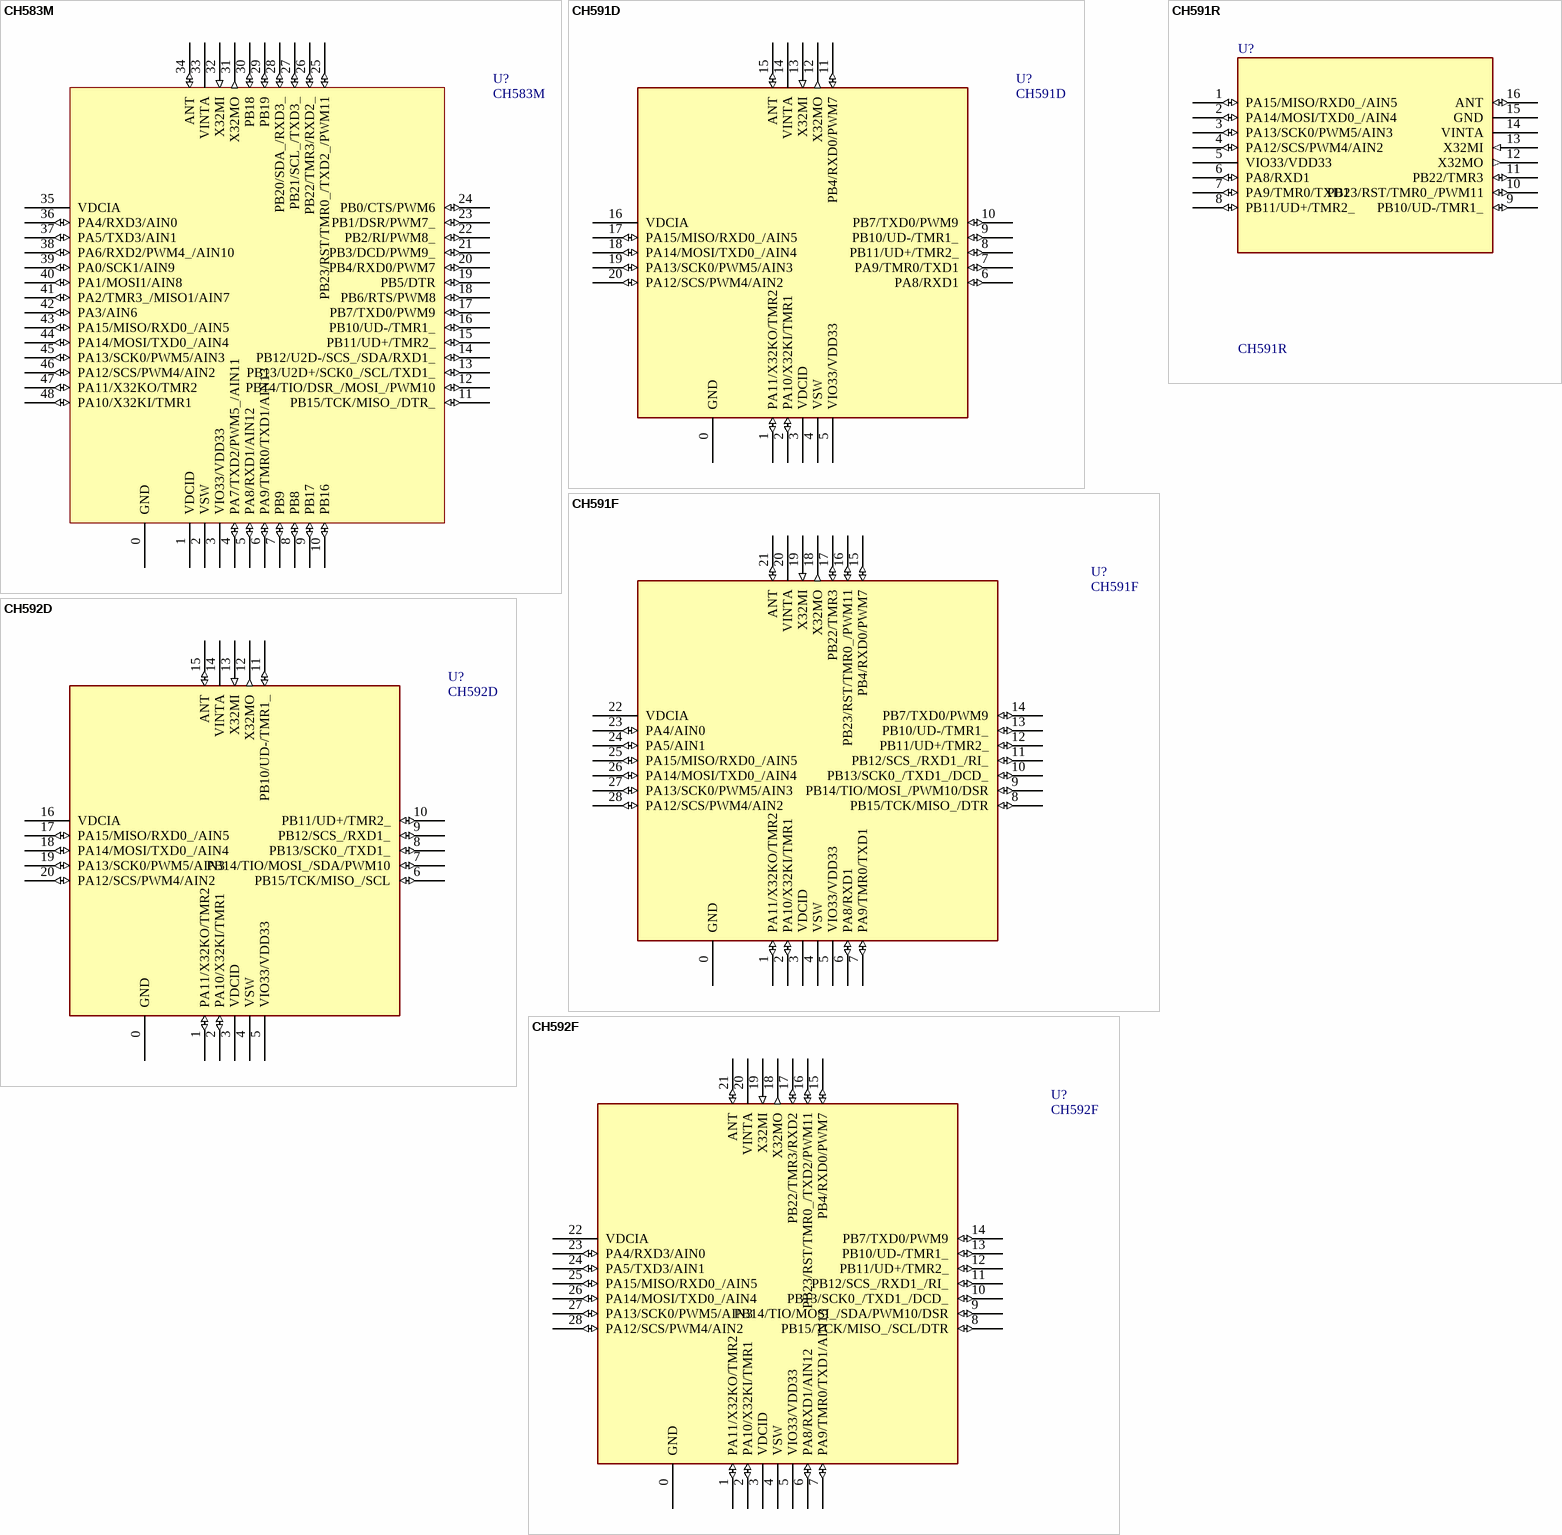
[diagram p50: symbols CH583M to CH592F]

## CH583M
designator U?
RISC-V MCU with BLE/2*USB/ADC/PWM/SPI/I2C/4*UART
footprint QFN48_5X5
pins: 0 GND (power), 1 VDCID (power), 2 VSW (power), 3 VIO33/VDD33 (power), 4 PA7/TXD2/PWM5_/AIN11 (io), 5 PA8/RXD1/AIN12 (io), 6 PA9/TMR0/TXD1/AIN13 (io), 7 PB9 (io), 8 PB8 (io), 9 PB17 (io), 10 PB16 (io), 11 PB15/TCK/MISO_/DTR_ (io), 12 PB14/TIO/DSR_/MOSI_/PWM10 (io), 13 PB13/U2D+/SCK0_/SCL/TXD1_ (io), 14 PB12/U2D-/SCS_/SDA/RXD1_ (io), 15 PB11/UD+/TMR2_ (io), 16 PB10/UD-/TMR1_ (io), 17 PB7/TXD0/PWM9 (io), 18 PB6/RTS/PWM8 (io), 19 PB5/DTR (io), 20 PB4/RXD0/PWM7 (io), 21 PB3/DCD/PWM9_ (io), 22 PB2/RI/PWM8_ (io), 23 PB1/DSR/PWM7_ (io), 24 PB0/CTS/PWM6 (io), 25 PB23/RST/TMR0_/TXD2_/PWM11 (io), 26 PB22/TMR3/RXD2_ (io), 27 PB21/SCL_/TXD3_ (io), 28 PB20/SDA_/RXD3_ (io), 29 PB19 (io), 30 PB18 (io), 31 X32MO (out), 32 X32MI (in), 33 VINTA (power), 34 ANT (io), 35 VDCIA (power), 36 PA4/RXD3/AIN0 (io), 37 PA5/TXD3/AIN1 (io), 38 PA6/RXD2/PWM4_/AIN10 (io), 39 PA0/SCK1/AIN9 (io), 40 PA1/MOSI1/AIN8 (io), 41 PA2/TMR3_/MISO1/AIN7 (io), 42 PA3/AIN6 (io), 43 PA15/MISO/RXD0_/AIN5 (io), 44 PA14/MOSI/TXD0_/AIN4 (io), 45 PA13/SCK0/PWM5/AIN3 (io), 46 PA12/SCS/PWM4/AIN2 (io), 47 PA11/X32KO/TMR2 (io), 48 PA10/X32KI/TMR1 (io)

## CH591D
designator U?
RISC-V MCU with BLE/USB/ADC/SPI/2*UART
footprint QFN20_3X3
pins: 0 GND (power), 1 PA11/X32KO/TMR2 (io), 2 PA10/X32KI/TMR1 (io), 3 VDCID (power), 4 VSW (power), 5 VIO33/VDD33 (power), 6 PA8/RXD1 (io), 7 PA9/TMR0/TXD1 (io), 8 PB11/UD+/TMR2_ (io), 9 PB10/UD-/TMR1_ (io), 10 PB7/TXD0/PWM9 (io), 11 PB4/RXD0/PWM7 (io), 12 X32MO (out), 13 X32MI (in), 14 VINTA (power), 15 ANT (io), 16 VDCIA (power), 17 PA15/MISO/RXD0_/AIN5 (io), 18 PA14/MOSI/TXD0_/AIN4 (io), 19 PA13/SCK0/PWM5/AIN3 (io), 20 PA12/SCS/PWM4/AIN2 (io)
2 alternate drawings of the same symbol

## CH591F
designator U?
RISC-V MCU with BLE/USB/ADC/SPI/2*UART/LCD
footprint QFN28_4X4 (Footprint not found)
pins: 0 GND (power), 1 PA11/X32KO/TMR2 (io), 2 PA10/X32KI/TMR1 (io), 3 VDCID (power), 4 VSW (power), 5 VIO33/VDD33 (power), 6 PA8/RXD1 (io), 7 PA9/TMR0/TXD1 (io), 8 PB15/TCK/MISO_/DTR (io), 9 PB14/TIO/MOSI_/PWM10/DSR (io), 10 PB13/SCK0_/TXD1_/DCD_ (io), 11 PB12/SCS_/RXD1_/RI_ (io), 12 PB11/UD+/TMR2_ (io), 13 PB10/UD-/TMR1_ (io), 14 PB7/TXD0/PWM9 (io), 15 PB4/RXD0/PWM7 (io), 16 PB23/RST/TMR0_/PWM11 (io), 17 PB22/TMR3 (io), 18 X32MO (out), 19 X32MI (in), 20 VINTA (power), 21 ANT (io), 22 VDCIA (power), 23 PA4/AIN0 (io), 24 PA5/AIN1 (io), 25 PA15/MISO/RXD0_/AIN5 (io), 26 PA14/MOSI/TXD0_/AIN4 (io), 27 PA13/SCK0/PWM5/AIN3 (io), 28 PA12/SCS/PWM4/AIN2 (io)
2 alternate drawings of the same symbol

## CH591R
designator U?
RISC-V MCU with BLE/USB/ADC/SPI/2*UART
footprint TSSOP16 (Footprint not found)
pins: 1 PA15/MISO/RXD0_/AIN5 (io), 2 PA14/MOSI/TXD0_/AIN4 (io), 3 PA13/SCK0/PWM5/AIN3 (io), 4 PA12/SCS/PWM4/AIN2 (io), 5 VIO33/VDD33 (power), 6 PA8/RXD1 (io), 7 PA9/TMR0/TXD1 (io), 8 PB11/UD+/TMR2_ (io), 9 PB10/UD-/TMR1_ (io), 10 PB23/RST/TMR0_/PWM11 (io), 11 PB22/TMR3 (io), 12 X32MO (out), 13 X32MI (in), 14 VINTA (power), 15 GND (power), 16 ANT (io)
2 alternate drawings of the same symbol

## CH592D
designator U?
RISC-V MCU with BLE/USB/ADC/SPI/2*UART/I2C
footprint QFN20_3X3
pins: 0 GND (power), 1 PA11/X32KO/TMR2 (io), 2 PA10/X32KI/TMR1 (io), 3 VDCID (power), 4 VSW (power), 5 VIO33/VDD33 (power), 6 PB15/TCK/MISO_/SCL (io), 7 PB14/TIO/MOSI_/SDA/PWM10 (io), 8 PB13/SCK0_/TXD1_ (io), 9 PB12/SCS_/RXD1_ (io), 10 PB11/UD+/TMR2_ (io), 11 PB10/UD-/TMR1_ (io), 12 X32MO (out), 13 X32MI (in), 14 VINTA (power), 15 ANT (io), 16 VDCIA (power), 17 PA15/MISO/RXD0_/AIN5 (io), 18 PA14/MOSI/TXD0_/AIN4 (io), 19 PA13/SCK0/PWM5/AIN3 (io), 20 PA12/SCS/PWM4/AIN2 (io)
2 alternate drawings of the same symbol

## CH592F
designator U?
RISC-V MCU with BLE/USB/ADC/SPI/4*UART/I2C/LCD
footprint QFN28_4X4 (Footprint not found)
pins: 0 GND (power), 1 PA11/X32KO/TMR2 (io), 2 PA10/X32KI/TMR1 (io), 3 VDCID (power), 4 VSW (power), 5 VIO33/VDD33 (power), 6 PA8/RXD1/AIN12 (io), 7 PA9/TMR0/TXD1/AIN13 (io), 8 PB15/TCK/MISO_/SCL/DTR (io), 9 PB14/TIO/MOSI_/SDA/PWM10/DSR (io), 10 PB13/SCK0_/TXD1_/DCD_ (io), 11 PB12/SCS_/RXD1_/RI_ (io), 12 PB11/UD+/TMR2_ (io), 13 PB10/UD-/TMR1_ (io), 14 PB7/TXD0/PWM9 (io), 15 PB4/RXD0/PWM7 (io), 16 PB23/RST/TMR0_/TXD2/PWM11 (io), 17 PB22/TMR3/RXD2 (io), 18 X32MO (out), 19 X32MI (in), 20 VINTA (power), 21 ANT (io), 22 VDCIA (power), 23 PA4/RXD3/AIN0 (io), 24 PA5/TXD3/AIN1 (io), 25 PA15/MISO/RXD0_/AIN5 (io), 26 PA14/MOSI/TXD0_/AIN4 (io), 27 PA13/SCK0/PWM5/AIN3 (io), 28 PA12/SCS/PWM4/AIN2 (io)
2 alternate drawings of the same symbol

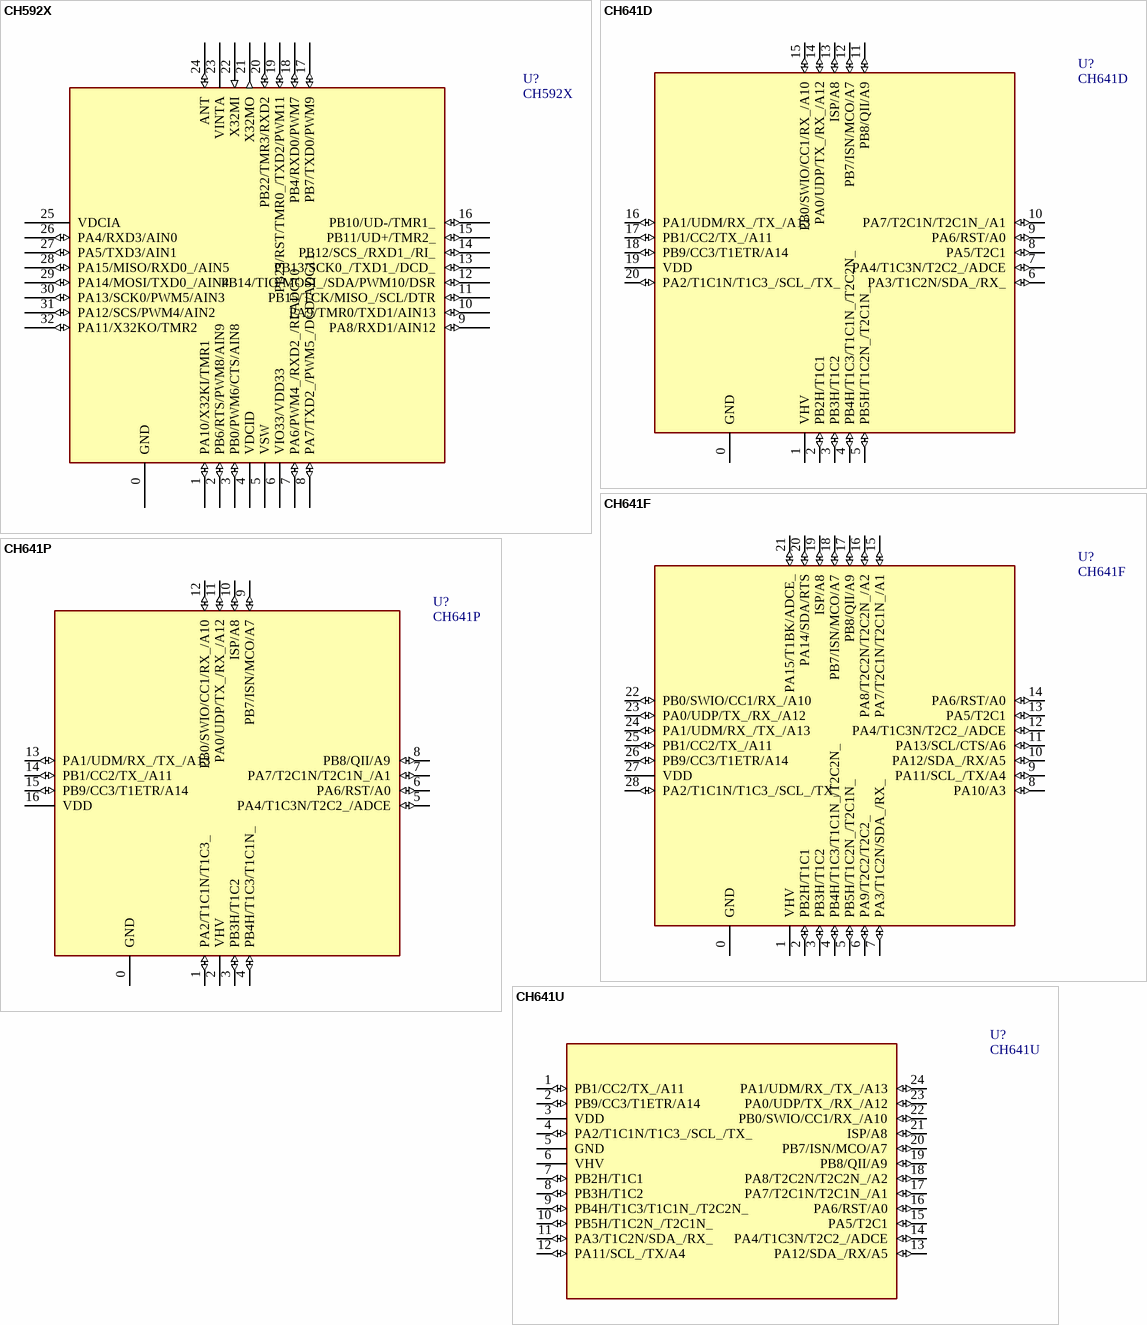
[diagram p51: symbols CH592X to CH641U]

## CH592X
designator U?
RISC-V MCU with BLE/USB/ADC/SPI/4*UART/I2C/LCD
footprint QFN32_4X4
pins: 0 GND (power), 1 PA10/X32KI/TMR1 (io), 2 PB6/RTS/PWM8/AIN9 (io), 3 PB0/PWM6/CTS/AIN8 (io), 4 VDCID (power), 5 VSW (power), 6 VIO33/VDD33 (power), 7 PA6/PWM4_/RXD2_/RI/ADC10 (io), 8 PA7/TXD2_/PWM5_/DCD/ADC11 (io), 9 PA8/RXD1/AIN12 (io), 10 PA9/TMR0/TXD1/AIN13 (io), 11 PB15/TCK/MISO_/SCL/DTR (io), 12 PB14/TIO/MOSI_/SDA/PWM10/DSR (io), 13 PB13/SCK0_/TXD1_/DCD_ (io), 14 PB12/SCS_/RXD1_/RI_ (io), 15 PB11/UD+/TMR2_ (io), 16 PB10/UD-/TMR1_ (io), 17 PB7/TXD0/PWM9 (io), 18 PB4/RXD0/PWM7 (io), 19 PB23/RST/TMR0_/TXD2/PWM11 (io), 20 PB22/TMR3/RXD2 (io), 21 X32MO (out), 22 X32MI (in), 23 VINTA (power), 24 ANT (io), 25 VDCIA (power), 26 PA4/RXD3/AIN0 (io), 27 PA5/TXD3/AIN1 (io), 28 PA15/MISO/RXD0_/AIN5 (io), 29 PA14/MOSI/TXD0_/AIN4 (io), 30 PA13/SCK0/PWM5/AIN3 (io), 31 PA12/SCS/PWM4/AIN2 (io), 32 PA11/X32KO/TMR2 (io)
2 alternate drawings of the same symbol

## CH641D
designator U?
RISC-V MCU with PD/ADC/UART/OA, for wireless charging
footprint QFN20_3X3 (Footprint not found)
pins: 0 GND (power), 1 VHV (power), 2 PB2H/T1C1 (io), 3 PB3H/T1C2 (io), 4 PB4H/T1C3/T1C1N_/T2C2N_ (io), 5 PB5H/T1C2N_/T2C1N_ (io), 6 PA3/T1C2N/SDA_/RX_ (io), 7 PA4/T1C3N/T2C2_/ADCE (io), 8 PA5/T2C1 (io), 9 PA6/RST/A0 (io), 10 PA7/T2C1N/T2C1N_/A1 (io), 11 PB8/QII/A9 (io), 12 PB7/ISN/MCO/A7 (io), 13 ISP/A8 (io), 14 PA0/UDP/TX_/RX_/A12 (io), 15 PB0/SWIO/CC1/RX_/A10 (io), 16 PA1/UDM/RX_/TX_/A13 (io), 17 PB1/CC2/TX_/A11 (io), 18 PB9/CC3/T1ETR/A14 (io), 19 VDD (power), 20 PA2/T1C1N/T1C3_/SCL_/TX_ (io)

## CH641F
designator U?
RISC-V MCU with PD/ADC/UART/OA, for wireless charging
footprint QFN28_4X4 (Footprint not found)
pins: 0 GND (power), 1 VHV (power), 2 PB2H/T1C1 (io), 3 PB3H/T1C2 (io), 4 PB4H/T1C3/T1C1N_/T2C2N_ (io), 5 PB5H/T1C2N_/T2C1N_ (io), 6 PA9/T2C2/T2C2_ (io), 7 PA3/T1C2N/SDA_/RX_ (io), 8 PA10/A3 (io), 9 PA11/SCL_/TX/A4 (io), 10 PA12/SDA_/RX/A5 (io), 11 PA13/SCL/CTS/A6 (io), 12 PA4/T1C3N/T2C2_/ADCE (io), 13 PA5/T2C1 (io), 14 PA6/RST/A0 (io), 15 PA7/T2C1N/T2C1N_/A1 (io), 16 PA8/T2C2N/T2C2N_/A2 (io), 17 PB8/QII/A9 (io), 18 PB7/ISN/MCO/A7 (io), 19 ISP/A8 (io), 20 PA14/SDA/RTS (io), 21 PA15/T1BK/ADCE_ (io), 22 PB0/SWIO/CC1/RX_/A10 (io), 23 PA0/UDP/TX_/RX_/A12 (io), 24 PA1/UDM/RX_/TX_/A13 (io), 25 PB1/CC2/TX_/A11 (io), 26 PB9/CC3/T1ETR/A14 (io), 27 VDD (power), 28 PA2/T1C1N/T1C3_/SCL_/TX_ (io)

## CH641P
designator U?
RISC-V MCU with PD/ADC/UART/OA, for wireless charging
footprint QFN16_3X3
pins: 0 GND (power), 1 PA2/T1C1N/T1C3_ (io), 2 VHV (power), 3 PB3H/T1C2 (io), 4 PB4H/T1C3/T1C1N_ (io), 5 PA4/T1C3N/T2C2_/ADCE (io), 6 PA6/RST/A0 (io), 7 PA7/T2C1N/T2C1N_/A1 (io), 8 PB8/QII/A9 (io), 9 PB7/ISN/MCO/A7 (io), 10 ISP/A8 (io), 11 PA0/UDP/TX_/RX_/A12 (io), 12 PB0/SWIO/CC1/RX_/A10 (io), 13 PA1/UDM/RX_/TX_/A13 (io), 14 PB1/CC2/TX_/A11 (io), 15 PB9/CC3/T1ETR/A14 (io), 16 VDD (power)
2 alternate drawings of the same symbol

## CH641U
designator U?
RISC-V MCU with PD/ADC/UART/OA, for wireless charging
footprint QSOP24 (Footprint not found)
pins: 1 PB1/CC2/TX_/A11 (io), 2 PB9/CC3/T1ETR/A14 (io), 3 VDD (power), 4 PA2/T1C1N/T1C3_/SCL_/TX_ (io), 5 GND (power), 6 VHV (power), 7 PB2H/T1C1 (io), 8 PB3H/T1C2 (io), 9 PB4H/T1C3/T1C1N_/T2C2N_ (io), 10 PB5H/T1C2N_/T2C1N_ (io), 11 PA3/T1C2N/SDA_/RX_ (io), 12 PA11/SCL_/TX/A4 (io), 13 PA12/SDA_/RX/A5 (io), 14 PA4/T1C3N/T2C2_/ADCE (io), 15 PA5/T2C1 (io), 16 PA6/RST/A0 (io), 17 PA7/T2C1N/T2C1N_/A1 (io), 18 PA8/T2C2N/T2C2N_/A2 (io), 19 PB8/QII/A9 (io), 20 PB7/ISN/MCO/A7 (io), 21 ISP/A8 (io), 22 PB0/SWIO/CC1/RX_/A10 (io), 23 PA0/UDP/TX_/RX_/A12 (io), 24 PA1/UDM/RX_/TX_/A13 (io)

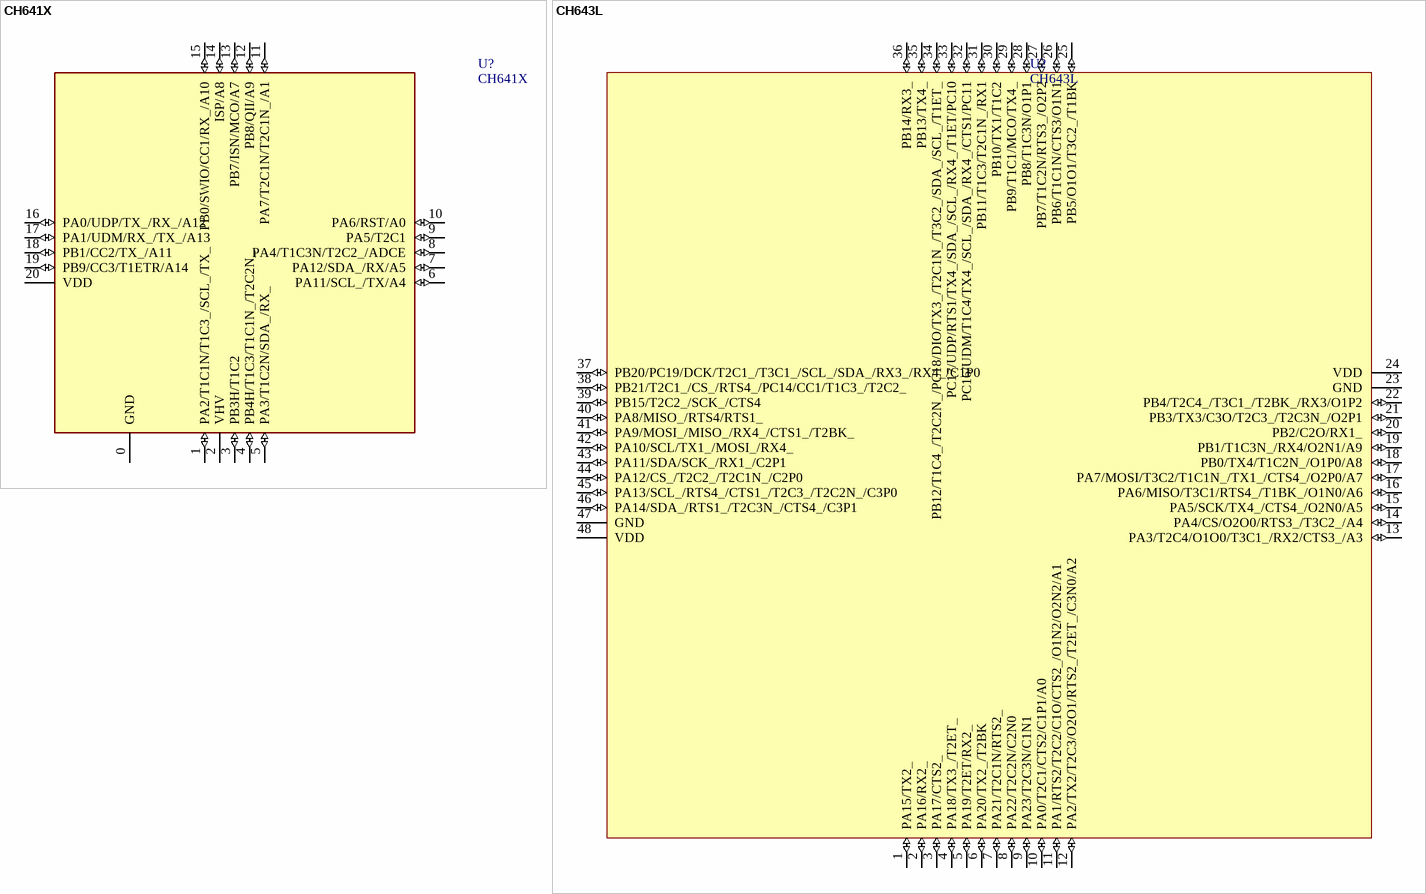
[diagram p52: symbols CH641X to CH643L]

## CH641X
designator U?
RISC-V MCU with PD/ADC/UART/OA, for wireless charging
footprint QFN20_3X3 (Footprint not found)
pins: 0 GND (power), 1 PA2/T1C1N/T1C3_/SCL_/TX_ (io), 2 VHV (power), 3 PB3H/T1C2 (io), 4 PB4H/T1C3/T1C1N_/T2C2N_ (io), 5 PA3/T1C2N/SDA_/RX_ (io), 6 PA11/SCL_/TX/A4 (io), 7 PA12/SDA_/RX/A5 (io), 8 PA4/T1C3N/T2C2_/ADCE (io), 9 PA5/T2C1 (io), 10 PA6/RST/A0 (io), 11 PA7/T2C1N/T2C1N_/A1 (io), 12 PB8/QII/A9 (io), 13 PB7/ISN/MCO/A7 (io), 14 ISP/A8 (io), 15 PB0/SWIO/CC1/RX_/A10 (io), 16 PA0/UDP/TX_/RX_/A12 (io), 17 PA1/UDM/RX_/TX_/A13 (io), 18 PB1/CC2/TX_/A11 (io), 19 PB9/CC3/T1ETR/A14 (io), 20 VDD (power)

## CH643L
designator U?
RISC-V MCU with USB/RGB/ADC/SPI/I2C/4*UART/PD
footprint LQFP48 (Footprint not found)
pins: 1 PA15/TX2_ (io), 2 PA16/RX2_ (io), 3 PA17/CTS2_ (io), 4 PA18/TX3_/T2ET_ (io), 5 PA19/T2ET/RX2_ (io), 6 PA20/TX2_/T2BK (io), 7 PA21/T2C1N/RTS2_ (io), 8 PA22/T2C2N/C2N0 (io), 9 PA23/T2C3N/C1N1 (io), 10 PA0/T2C1/CTS2/C1P1/A0 (io), 11 PA1/RTS2/T2C2/C1O/CTS2_/O1N2/O2N2/A1 (io), 12 PA2/TX2/T2C3/O2O1/RTS2_/T2ET_/C3N0/A2 (io), 13 PA3/T2C4/O1O0/T3C1_/RX2/CTS3_/A3 (io), 14 PA4/CS/O2O0/RTS3_/T3C2_/A4 (io), 15 PA5/SCK/TX4_/CTS4_/O2N0/A5 (io), 16 PA6/MISO/T3C1/RTS4_/T1BK_/O1N0/A6 (io), 17 PA7/MOSI/T3C2/T1C1N_/TX1_/CTS4_/O2P0/A7 (io), 18 PB0/TX4/T1C2N_/O1P0/A8 (io), 19 PB1/T1C3N_/RX4/O2N1/A9 (io), 20 PB2/C2O/RX1_ (io), 21 PB3/TX3/C3O/T2C3_/T2C3N_/O2P1 (io), 22 PB4/T2C4_/T3C1_/T2BK_/RX3/O1P2 (io), 23 GND (power), 24 VDD (power), 25 PB5/O1O1/T3C2_/T1BK (io), 26 PB6/T1C1N/CTS3/O1N1 (io), 27 PB7/T1C2N/RTS3_/O2P2 (io), 28 PB8/T1C3N/O1P1 (io), 29 PB9/T1C1/MCO/TX4_ (io), 30 PB10/TX1/T1C2 (io), 31 PB11/T1C3/T2C1N_/RX1 (io), 32 PC16/UDM/T1C4/TX4_/SCL_/SDA_/RX4_/CTS1/PC11 (io), 33 PC17/UDP/RTS1/TX4_/SDA_/SCL_/RX4_/T1ET/PC10 (io), 34 PB12/T1C4_/T2C2N_/PC18/DIO/TX3_/T2C1N_/T3C2_/SDA_/SCL_/T1ET_ (io), 35 PB13/TX4_ (io), 36 PB14/RX3_ (io), 37 PB20/PC19/DCK/T2C1_/T3C1_/SCL_/SDA_/RX3_/RX4_/C1P0 (io), 38 PB21/T2C1_/CS_/RTS4_/PC14/CC1/T1C3_/T2C2_ (io), 39 PB15/T2C2_/SCK_/CTS4 (io), 40 PA8/MISO_/RTS4/RTS1_ (io), 41 PA9/MOSI_/MISO_/RX4_/CTS1_/T2BK_ (io), 42 PA10/SCL/TX1_/MOSI_/RX4_ (io), 43 PA11/SDA/SCK_/RX1_/C2P1 (io), 44 PA12/CS_/T2C2_/T2C1N_/C2P0 (io), 45 PA13/SCL_/RTS4_/CTS1_/T2C3_/T2C2N_/C3P0 (io), 46 PA14/SDA_/RTS1_/T2C3N_/CTS4_/C3P1 (io), 47 GND (power), 48 VDD (power)

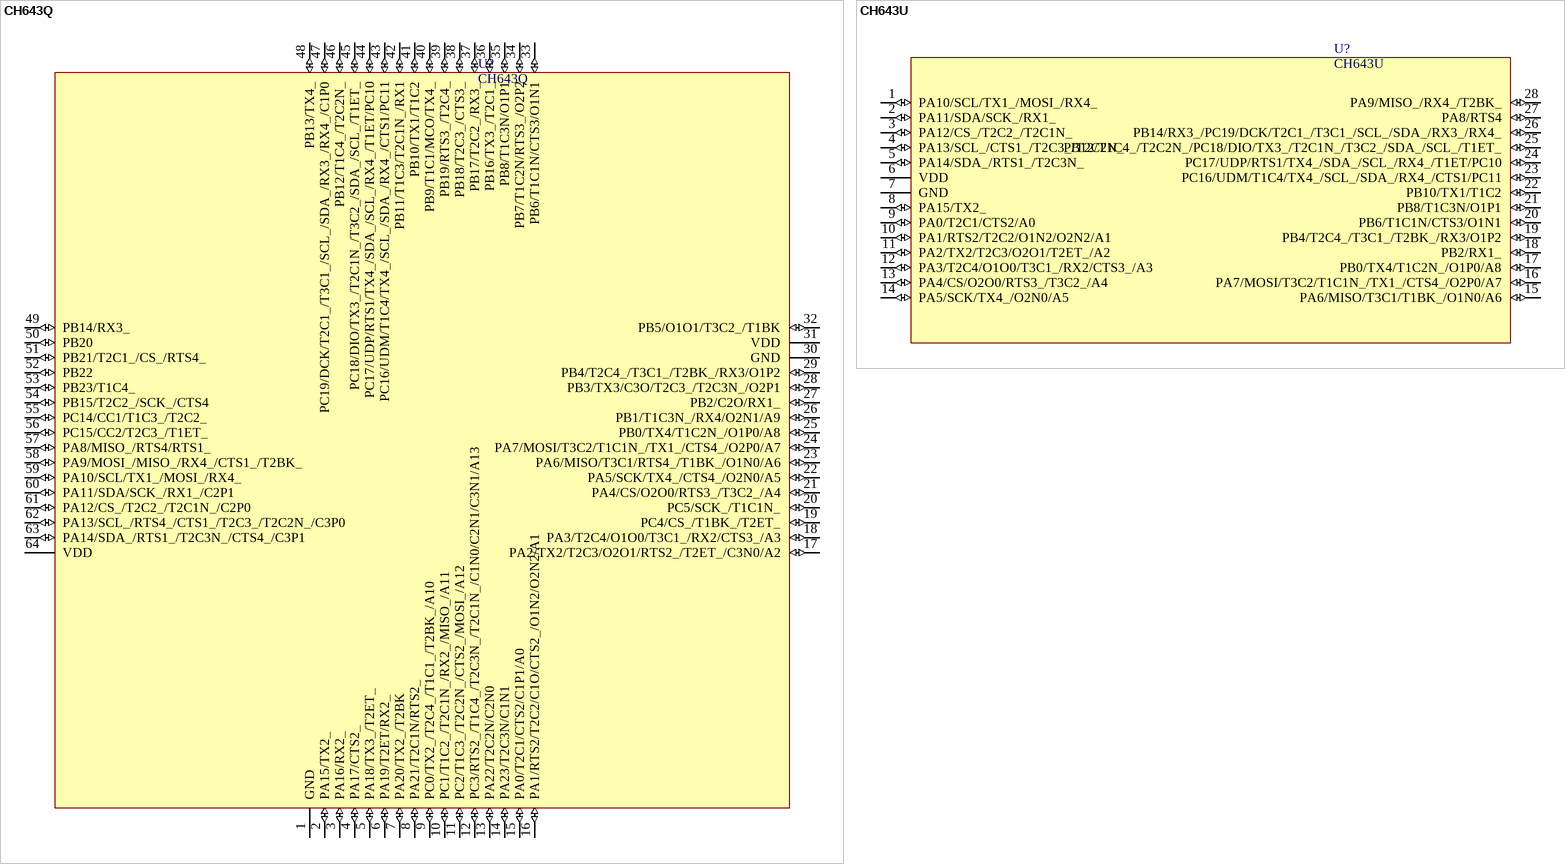
[diagram p53: symbols CH643Q to CH643U]

## CH643Q
designator U?
RISC-V MCU with USB/RGB/ADC/SPI/I2C/4*UART/PD
footprint LQFP64 (Footprint not found)
pins: 1 GND (power), 2 PA15/TX2_ (io), 3 PA16/RX2_ (io), 4 PA17/CTS2_ (io), 5 PA18/TX3_/T2ET_ (io), 6 PA19/T2ET/RX2_ (io), 7 PA20/TX2_/T2BK (io), 8 PA21/T2C1N/RTS2_ (io), 9 PC0/TX2_/T2C4_/T1C1_/T2BK_/A10 (io), 10 PC1/T1C2_/T2C1N_/RX2_/MISO_/A11 (io), 11 PC2/T1C3_/T2C2N_/CTS2_/MOSI_/A12 (io), 12 PC3/RTS2_/T1C4_/T2C3N_/T2C1N_/C1N0/C2N1/C3N1/A13 (io), 13 PA22/T2C2N/C2N0 (io), 14 PA23/T2C3N/C1N1 (io), 15 PA0/T2C1/CTS2/C1P1/A0 (io), 16 PA1/RTS2/T2C2/C1O/CTS2_/O1N2/O2N2/A1 (io), 17 PA2/TX2/T2C3/O2O1/RTS2_/T2ET_/C3N0/A2 (io), 18 PA3/T2C4/O1O0/T3C1_/RX2/CTS3_/A3 (io), 19 PC4/CS_/T1BK_/T2ET_ (io), 20 PC5/SCK_/T1C1N_ (io), 21 PA4/CS/O2O0/RTS3_/T3C2_/A4 (io), 22 PA5/SCK/TX4_/CTS4_/O2N0/A5 (io), 23 PA6/MISO/T3C1/RTS4_/T1BK_/O1N0/A6 (io), 24 PA7/MOSI/T3C2/T1C1N_/TX1_/CTS4_/O2P0/A7 (io), 25 PB0/TX4/T1C2N_/O1P0/A8 (io), 26 PB1/T1C3N_/RX4/O2N1/A9 (io), 27 PB2/C2O/RX1_ (io), 28 PB3/TX3/C3O/T2C3_/T2C3N_/O2P1 (io), 29 PB4/T2C4_/T3C1_/T2BK_/RX3/O1P2 (io), 30 GND (power), 31 VDD (power), 32 PB5/O1O1/T3C2_/T1BK (io), 33 PB6/T1C1N/CTS3/O1N1 (io), 34 PB7/T1C2N/RTS3_/O2P2 (io), 35 PB8/T1C3N/O1P1 (io), 36 PB16/TX3_/T2C1_ (io), 37 PB17/T2C2_/RX3_ (io), 38 PB18/T2C3_/CTS3_ (io), 39 PB19/RTS3_/T2C4_ (io), 40 PB9/T1C1/MCO/TX4_ (io), 41 PB10/TX1/T1C2 (io), 42 PB11/T1C3/T2C1N_/RX1 (io), 43 PC16/UDM/T1C4/TX4_/SCL_/SDA_/RX4_/CTS1/PC11 (io), 44 PC17/UDP/RTS1/TX4_/SDA_/SCL_/RX4_/T1ET/PC10 (io), 45 PC18/DIO/TX3_/T2C1N_/T3C2_/SDA_/SCL_/T1ET_ (io), 46 PB12/T1C4_/T2C2N_ (io), 47 PC19/DCK/T2C1_/T3C1_/SCL_/SDA_/RX3_/RX4_/C1P0 (io), 48 PB13/TX4_ (io), 49 PB14/RX3_ (io), 50 PB20 (io), 51 PB21/T2C1_/CS_/RTS4_ (io), 52 PB22 (io), 53 PB23/T1C4_ (io), 54 PB15/T2C2_/SCK_/CTS4 (io), 55 PC14/CC1/T1C3_/T2C2_ (io), 56 PC15/CC2/T2C3_/T1ET_ (io), 57 PA8/MISO_/RTS4/RTS1_ (io), 58 PA9/MOSI_/MISO_/RX4_/CTS1_/T2BK_ (io), 59 PA10/SCL/TX1_/MOSI_/RX4_ (io), 60 PA11/SDA/SCK_/RX1_/C2P1 (io), 61 PA12/CS_/T2C2_/T2C1N_/C2P0 (io), 62 PA13/SCL_/RTS4_/CTS1_/T2C3_/T2C2N_/C3P0 (io), 63 PA14/SDA_/RTS1_/T2C3N_/CTS4_/C3P1 (io), 64 VDD (power)

## CH643U
designator U?
RISC-V MCU with USB/RGB/ADC/SPI/I2C/4*UART
footprint QSOP28 (Footprint not found)
pins: 1 PA10/SCL/TX1_/MOSI_/RX4_ (io), 2 PA11/SDA/SCK_/RX1_ (io), 3 PA12/CS_/T2C2_/T2C1N_ (io), 4 PA13/SCL_/CTS1_/T2C3_/T2C2N_ (io), 5 PA14/SDA_/RTS1_/T2C3N_ (io), 6 VDD (power), 7 GND (power), 8 PA15/TX2_ (io), 9 PA0/T2C1/CTS2/A0 (io), 10 PA1/RTS2/T2C2/O1N2/O2N2/A1 (io), 11 PA2/TX2/T2C3/O2O1/T2ET_/A2 (io), 12 PA3/T2C4/O1O0/T3C1_/RX2/CTS3_/A3 (io), 13 PA4/CS/O2O0/RTS3_/T3C2_/A4 (io), 14 PA5/SCK/TX4_/O2N0/A5 (io), 15 PA6/MISO/T3C1/T1BK_/O1N0/A6 (io), 16 PA7/MOSI/T3C2/T1C1N_/TX1_/CTS4_/O2P0/A7 (io), 17 PB0/TX4/T1C2N_/O1P0/A8 (io), 18 PB2/RX1_ (io), 19 PB4/T2C4_/T3C1_/T2BK_/RX3/O1P2 (io), 20 PB6/T1C1N/CTS3/O1N1 (io), 21 PB8/T1C3N/O1P1 (io), 22 PB10/TX1/T1C2 (io), 23 PC16/UDM/T1C4/TX4_/SCL_/SDA_/RX4_/CTS1/PC11 (io), 24 PC17/UDP/RTS1/TX4_/SDA_/SCL_/RX4_/T1ET/PC10 (io), 25 PB12/T1C4_/T2C2N_/PC18/DIO/TX3_/T2C1N_/T3C2_/SDA_/SCL_/T1ET_ (io), 26 PB14/RX3_/PC19/DCK/T2C1_/T3C1_/SCL_/SDA_/RX3_/RX4_ (io), 27 PA8/RTS4 (io), 28 PA9/MISO_/RX4_/T2BK_ (io)

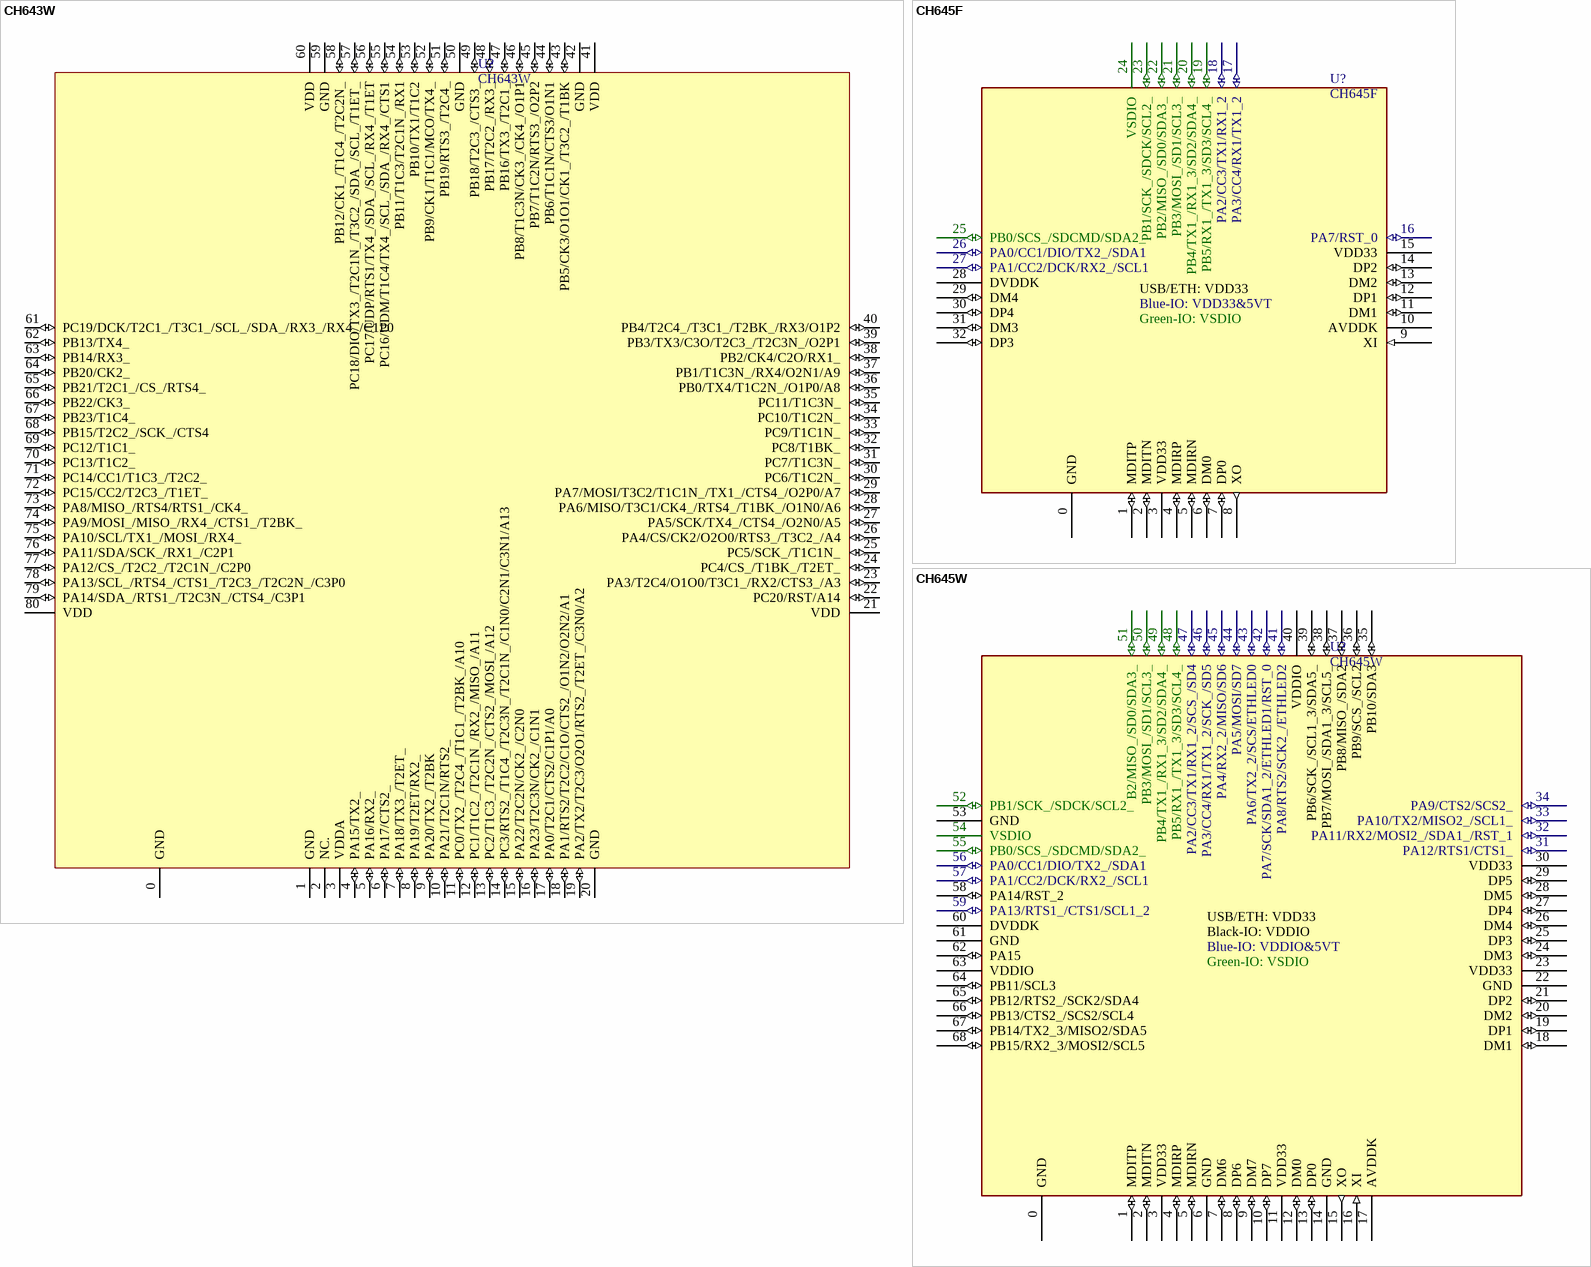
[diagram p54: symbols CH643W to CH645W]

## CH643W
designator U?
RISC-V MCU with USB/RGB/ADC/SPI/I2C/4*UART/PD
footprint QFN80_9X9 (Footprint not found)
pins: 0 GND (power), 1 GND (power), 2 NC., 3 VDDA (power), 4 PA15/TX2_ (io), 5 PA16/RX2_ (io), 6 PA17/CTS2_ (io), 7 PA18/TX3_/T2ET_ (io), 8 PA19/T2ET/RX2_ (io), 9 PA20/TX2_/T2BK (io), 10 PA21/T2C1N/RTS2_ (io), 11 PC0/TX2_/T2C4_/T1C1_/T2BK_/A10 (io), 12 PC1/T1C2_/T2C1N_/RX2_/MISO_/A11 (io), 13 PC2/T1C3_/T2C2N_/CTS2_/MOSI_/A12 (io), 14 PC3/RTS2_/T1C4_/T2C3N_/T2C1N_/C1N0/C2N1/C3N1/A13 (io), 15 PA22/T2C2N/CK2_/C2N0 (io), 16 PA23/T2C3N/CK2_/C1N1 (io), 17 PA0/T2C1/CTS2/C1P1/A0 (io), 18 PA1/RTS2/T2C2/C1O/CTS2_/O1N2/O2N2/A1 (io), 19 PA2/TX2/T2C3/O2O1/RTS2_/T2ET_/C3N0/A2 (io), 20 GND (power), 21 VDD (power), 22 PC20/RST/A14 (io), 23 PA3/T2C4/O1O0/T3C1_/RX2/CTS3_/A3 (io), 24 PC4/CS_/T1BK_/T2ET_ (io), 25 PC5/SCK_/T1C1N_ (io), 26 PA4/CS/CK2/O2O0/RTS3_/T3C2_/A4 (io), 27 PA5/SCK/TX4_/CTS4_/O2N0/A5 (io), 28 PA6/MISO/T3C1/CK4_/RTS4_/T1BK_/O1N0/A6 (io), 29 PA7/MOSI/T3C2/T1C1N_/TX1_/CTS4_/O2P0/A7 (io), 30 PC6/T1C2N_ (io), 31 PC7/T1C3N_ (io), 32 PC8/T1BK_ (io), 33 PC9/T1C1N_ (io), 34 PC10/T1C2N_ (io), 35 PC11/T1C3N_ (io), 36 PB0/TX4/T1C2N_/O1P0/A8 (io), 37 PB1/T1C3N_/RX4/O2N1/A9 (io), 38 PB2/CK4/C2O/RX1_ (io), 39 PB3/TX3/C3O/T2C3_/T2C3N_/O2P1 (io), 40 PB4/T2C4_/T3C1_/T2BK_/RX3/O1P2 (io), 41 VDD (power), 42 GND (power), 43 PB5/CK3/O1O1/CK1_/T3C2_/T1BK (io), 44 PB6/T1C1N/CTS3/O1N1 (io), 45 PB7/T1C2N/RTS3_/O2P2 (io), 46 PB8/T1C3N/CK3_/CK4_/O1P1 (io), 47 PB16/TX3_/T2C1_ (io), 48 PB17/T2C2_/RX3_ (io), 49 PB18/T2C3_/CTS3_ (io), 50 GND (power), 51 PB19/RTS3_/T2C4_ (io), 52 PB9/CK1/T1C1/MCO/TX4_ (io), 53 PB10/TX1/T1C2 (io), 54 PB11/T1C3/T2C1N_/RX1 (io), 55 PC16/UDM/T1C4/TX4_/SCL_/SDA_/RX4_/CTS1 (io), 56 PC17/UDP/RTS1/TX4_/SDA_/SCL_/RX4_/T1ET (io), 57 PC18/DIO/TX3_/T2C1N_/T3C2_/SDA_/SCL_/T1ET_ (io), 58 PB12/CK1_/T1C4_/T2C2N_ (io), 59 GND (power), 60 VDD (power), 61 PC19/DCK/T2C1_/T3C1_/SCL_/SDA_/RX3_/RX4_/C1P0 (io), 62 PB13/TX4_ (io), 63 PB14/RX3_ (io), 64 PB20/CK2_ (io), 65 PB21/T2C1_/CS_/RTS4_ (io), 66 PB22/CK3_ (io), 67 PB23/T1C4_ (io), 68 PB15/T2C2_/SCK_/CTS4 (io), 69 PC12/T1C1_ (io), 70 PC13/T1C2_ (io), 71 PC14/CC1/T1C3_/T2C2_ (io), 72 PC15/CC2/T2C3_/T1ET_ (io), 73 PA8/MISO_/RTS4/RTS1_/CK4_ (io), 74 PA9/MOSI_/MISO_/RX4_/CTS1_/T2BK_ (io), 75 PA10/SCL/TX1_/MOSI_/RX4_ (io), 76 PA11/SDA/SCK_/RX1_/C2P1 (io), 77 PA12/CS_/T2C2_/T2C1N_/C2P0 (io), 78 PA13/SCL_/RTS4_/CTS1_/T2C3_/T2C2N_/C3P0 (io), 79 PA14/SDA_/RTS1_/T2C3N_/CTS4_/C3P1 (io), 80 VDD (power)

## CH645F
designator U?
RISC-V MCU, with 4*USB hub, 4*USB host, 4*I2C, 2*PD, SDIO, ethernet
footprint QFN32_4X4 (Footprint not found)
pins: 0 GND (power), 1 MDITP (io), 2 MDITN (io), 3 VDD33 (power), 4 MDIRP (io), 5 MDIRN (io), 6 DM0 (io), 7 DP0 (io), 8 XO (out), 9 XI (in), 10 AVDDK (power), 11 DM1 (io), 12 DP1 (io), 13 DM2 (io), 14 DP2 (io), 15 VDD33 (power), 16 PA7/RST_0 (io), 17 PA3/CC4/RX1/TX1_2 (io), 18 PA2/CC3/TX1/RX1_2 (io), 19 PB5/RX1_/TX1_3/SD3/SCL4_ (io), 20 PB4/TX1_/RX1_3/SD2/SDA4_ (io), 21 PB3/MOSI_/SD1/SCL3_ (io), 22 PB2/MISO_/SD0/SDA3_ (io), 23 PB1/SCK_/SDCK/SCL2_ (io), 24 VSDIO (power), 25 PB0/SCS_/SDCMD/SDA2_ (io), 26 PA0/CC1/DIO/TX2_/SDA1 (io), 27 PA1/CC2/DCK/RX2_/SCL1 (io), 28 DVDDK (power), 29 DM4 (io), 30 DP4 (io), 31 DM3 (io), 32 DP3 (io)
2 alternate drawings of the same symbol
text: USB/ETH: VDD33; Blue-IO: VDD33&5VT; Green-IO: VSDIO

## CH645W
designator U?
RISC-V MCU for KVM, with 4*USB hub, 4*USB host, 5*I2C, 2*PD, SDIO, ethernet
footprint QFN68_8X8 (Footprint not found)
pins: 0 GND (power), 1 MDITP (io), 2 MDITN (io), 3 VDD33 (power), 4 MDIRP (io), 5 MDIRN (io), 6 GND (power), 7 DM6 (io), 8 DP6 (io), 9 DM7 (io), 10 DP7 (io), 11 VDD33 (power), 12 DM0 (io), 13 DP0 (io), 14 GND (power), 15 XO (out), 16 XI (in), 17 AVDDK (power), 18 DM1 (io), 19 DP1 (io), 20 DM2 (io), 21 DP2 (io), 22 GND (power), 23 VDD33 (power), 24 DM3 (io), 25 DP3 (io), 26 DM4 (io), 27 DP4 (io), 28 DM5 (io), 29 DP5 (io), 30 VDD33 (power), 31 PA12/RTS1/CTS1_ (io), 32 PA11/RX2/MOSI2_/SDA1_/RST_1 (io), 33 PA10/TX2/MISO2_/SCL1_ (io), 34 PA9/CTS2/SCS2_ (io), 35 PB10/SDA3 (io), 36 PB9/SCS_/SCL2 (io), 37 PB8/MISO_/SDA2 (io), 38 PB7/MOSI_/SDA1_3/SCL5_ (io), 39 PB6/SCK_/SCL1_3/SDA5_ (io), 40 VDDIO (power), 41 PA8/RTS2/SCK2_/ETHLED2 (io), 42 PA7/SCK/SDA1_2/ETHLED1/RST_0 (io), 43 PA6/TX2_2/SCS/ETHLED0 (io), 44 PA5/MOSI/SD7 (io), 45 PA4/RX2_2/MISO/SD6 (io), 46 PA3/CC4/RX1/TX1_2/SCK_/SD5 (io), 47 PA2/CC3/TX1/RX1_2/SCS_/SD4 (io), 48 PB5/RX1_/TX1_3/SD3/SCL4_ (io), 49 PB4/TX1_/RX1_3/SD2/SDA4_ (io), 50 PB3/MOSI_/SD1/SCL3_ (io), 51 B2/MISO_/SD0/SDA3_ (io), 52 PB1/SCK_/SDCK/SCL2_ (io), 53 GND (power), 54 VSDIO (power), 55 PB0/SCS_/SDCMD/SDA2_ (io), 56 PA0/CC1/DIO/TX2_/SDA1 (io), 57 PA1/CC2/DCK/RX2_/SCL1 (io), 58 PA14/RST_2 (io), 59 PA13/RTS1_/CTS1/SCL1_2 (io), 60 DVDDK (power), 61 GND (power), 62 PA15 (io), 63 VDDIO (power), 64 PB11/SCL3 (io), 65 PB12/RTS2_/SCK2/SDA4 (io), 66 PB13/CTS2_/SCS2/SCL4 (io), 67 PB14/TX2_3/MISO2/SDA5 (io), 68 PB15/RX2_3/MOSI2/SCL5 (io)
2 alternate drawings of the same symbol
text: USB/ETH: VDD33; Black-IO: VDDIO; Blue-IO: VDDIO&5VT; Green-IO: VSDIO

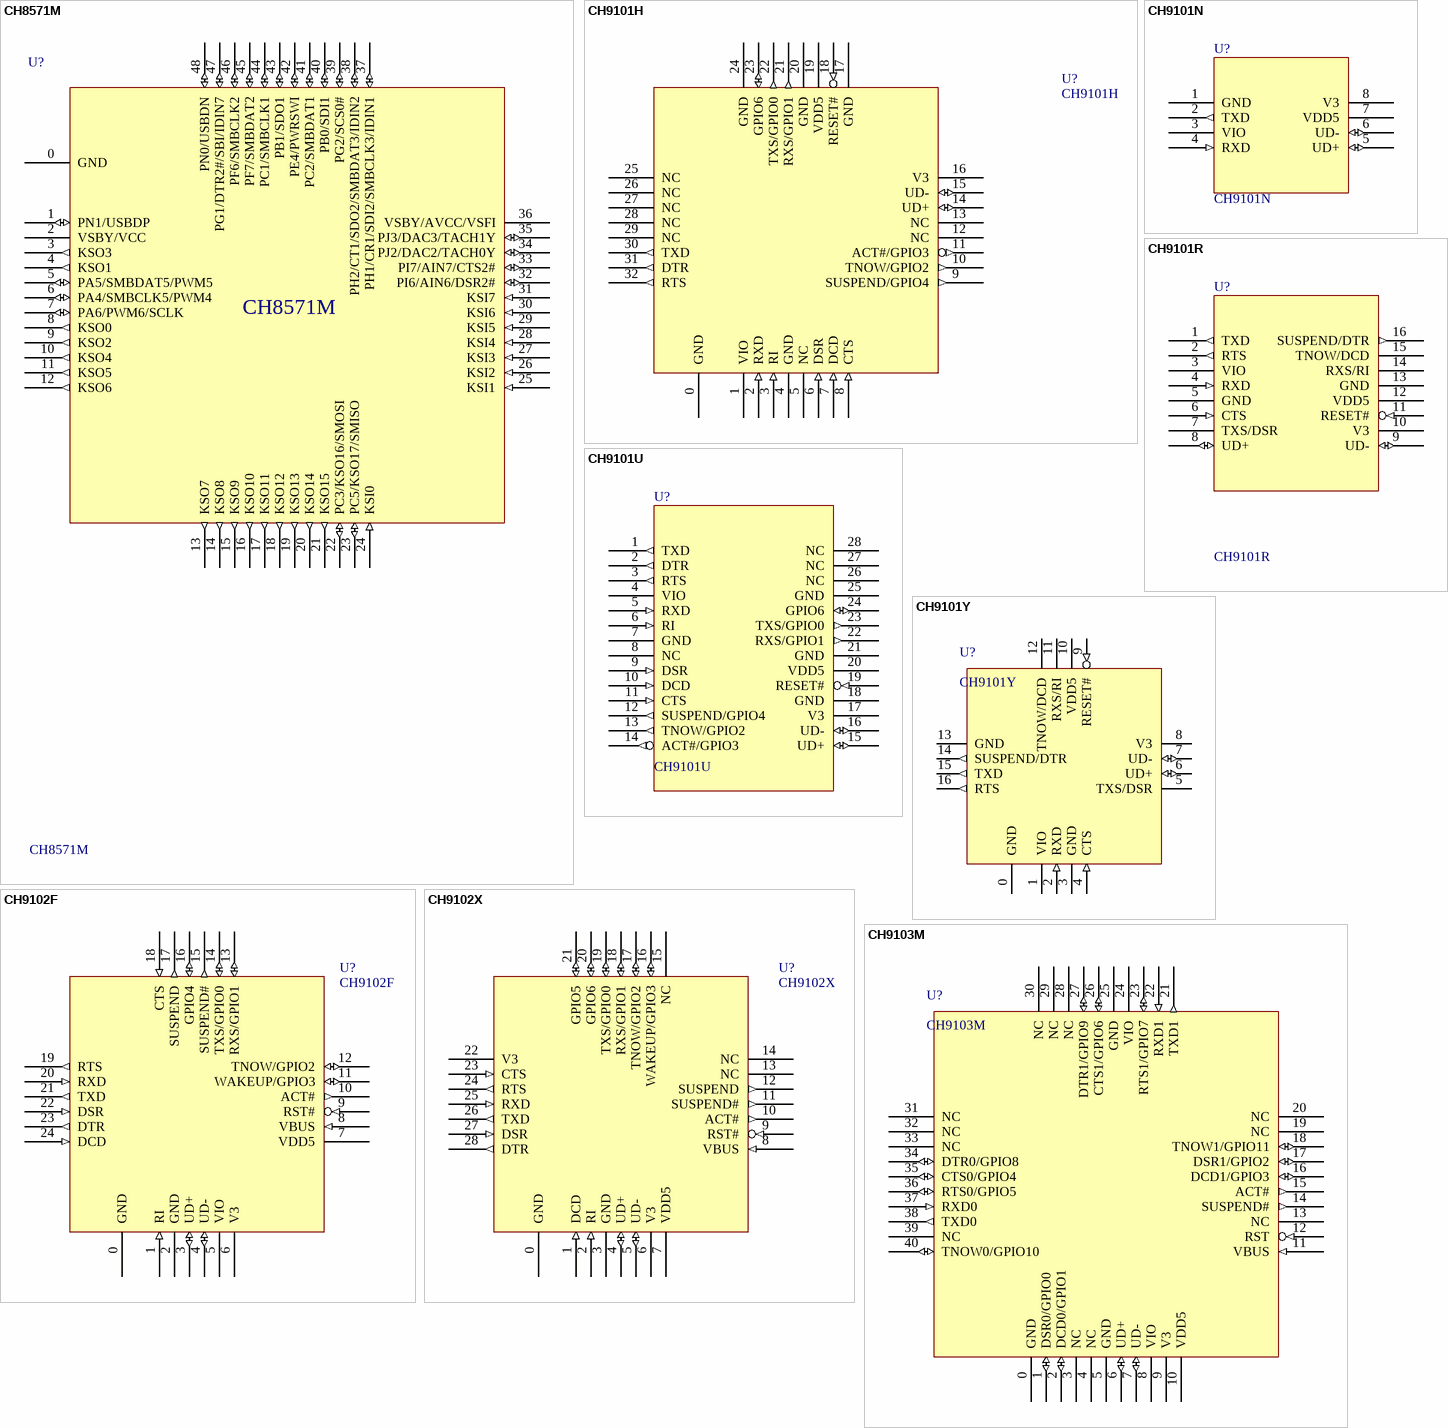
[diagram p55: symbols CH8571M to CH9103M]

## CH8571M
designator U?
RISC-V embedded controller for mobile platforms
footprint QFN48_7X7 (Footprint not found)
pins: 0 GND (power), 1 PN1/USBDP (io), 2 VSBY/VCC (power), 3 KSO3 (out), 4 KSO1 (out), 5 PA5/SMBDAT5/PWM5 (io), 6 PA4/SMBCLK5/PWM4 (io), 7 PA6/PWM6/SCLK (io), 8 KSO0 (out), 9 KSO2 (out), 10 KSO4 (out), 11 KSO5 (out), 12 KSO6 (out), 13 KSO7 (out), 14 KSO8 (out), 15 KSO9 (out), 16 KSO10 (out), 17 KSO11 (out), 18 KSO12 (out), 19 KSO13 (out), 20 KSO14 (out), 21 KSO15 (out), 22 PC3/KSO16/SMOSI (io), 23 PC5/KSO17/SMISO (io), 24 KSI0 (in), 25 KSI1 (in), 26 KSI2 (in), 27 KSI3 (in), 28 KSI4 (in), 29 KSI5 (in), 30 KSI6 (in), 31 KSI7 (in), 32 PI6/AIN6/DSR2# (io), 33 PI7/AIN7/CTS2# (io), 34 PJ2/DAC2/TACH0Y (io), 35 PJ3/DAC3/TACH1Y (io), 36 VSBY/AVCC/VSFI (power), 37 PH1/CR1/SDI2/SMBCLK3/IDIN1 (io), 38 PH2/CT1/SDO2/SMBDAT3/IDIN2 (io), 39 PG2/SCS0# (io), 40 PB0/SDI1 (io), 41 PC2/SMBDAT1 (io), 42 PE4/PWRSWI (io), 43 PB1/SDO1 (io), 44 PC1/SMBCLK1 (io), 45 PF7/SMBDAT2 (io), 46 PF6/SMBCLK2 (io), 47 PG1/DTR2#/SBI/IDIN7 (io), 48 PN0/USBDN (io)

## CH9101H
designator U?
USB to high speed TTL Serial / UART
footprint QFN32_5X5
pins: 0 GND (power), 1 VIO (power), 2 RXD (in), 3 RI (in), 4 GND (power), 5 NC, 6 DSR (in), 7 DCD (in), 8 CTS (in), 9 SUSPEND/GPIO4 (out), 10 TNOW/GPIO2 (out), 11 ACT#/GPIO3 (out), 12 NC, 13 NC, 14 UD+ (io), 15 UD- (io), 16 V3 (power), 17 GND (power), 18 RESET# (in), 19 VDD5 (power), 20 GND (power), 21 RXS/GPIO1 (out), 22 TXS/GPIO0 (out), 23 GPIO6 (io), 24 GND (power), 25 NC, 26 NC, 27 NC, 28 NC, 29 NC, 30 TXD (out), 31 DTR (out), 32 RTS (out)

## CH9101N
designator U?
USB to high speed TTL Serial / UART
footprint SOP8
pins: 1 GND (power), 2 TXD (out), 3 VIO (power), 4 RXD (in), 5 UD+ (io), 6 UD- (io), 7 VDD5 (power), 8 V3 (power)

## CH9101R
designator U?
USB to high speed TTL Serial / UART
footprint QSOP16
pins: 1 TXD (out), 2 RTS (out), 3 VIO (power), 4 RXD (in), 5 GND (power), 6 CTS (in), 7 TXS/DSR, 8 UD+ (io), 9 UD- (io), 10 V3 (power), 11 RESET# (in), 12 VDD5 (power), 13 GND (power), 14 RXS/RI, 15 TNOW/DCD, 16 SUSPEND/DTR (out)

## CH9101U
designator U?
USB to high speed TTL Serial / UART
footprint SSOP28 (Footprint not found)
pins: 1 TXD (out), 2 DTR (out), 3 RTS (out), 4 VIO (power), 5 RXD (in), 6 RI (in), 7 GND (power), 8 NC, 9 DSR (in), 10 DCD (in), 11 CTS (in), 12 SUSPEND/GPIO4 (out), 13 TNOW/GPIO2 (out), 14 ACT#/GPIO3 (out), 15 UD+ (io), 16 UD- (io), 17 V3 (power), 18 GND (power), 19 RESET# (in), 20 VDD5 (power), 21 GND (power), 22 RXS/GPIO1 (out), 23 TXS/GPIO0 (out), 24 GPIO6 (io), 25 GND (power), 26 NC, 27 NC, 28 NC

## CH9101Y
designator U?
USB to high speed TTL Serial / UART
footprint QFN16_4X4
pins: 0 GND (power), 1 VIO (power), 2 RXD (in), 3 GND (power), 4 CTS (in), 5 TXS/DSR, 6 UD+ (io), 7 UD- (io), 8 V3 (power), 9 RESET# (in), 10 VDD5 (power), 11 RXS/RI, 12 TNOW/DCD, 13 GND (power), 14 SUSPEND/DTR (out), 15 TXD (out), 16 RTS (out)

## CH9102F
designator U?
USB to high speed TTL Serial / UART
footprint QFN24_4X4
pins: 0 GND (power), 1 RI (in), 2 GND (power), 3 UD+ (io), 4 UD- (io), 5 VIO (power), 6 V3 (power), 7 VDD5 (power), 8 VBUS (in), 9 RST# (in), 10 ACT# (out), 11 WAKEUP/GPIO3 (io), 12 TNOW/GPIO2 (io), 13 RXS/GPIO1 (io), 14 TXS/GPIO0 (io), 15 SUSPEND# (out), 16 GPIO4 (io), 17 SUSPEND (out), 18 CTS (in), 19 RTS (out), 20 RXD (in), 21 TXD (out), 22 DSR (in), 23 DTR (out), 24 DCD (in)

## CH9102X
designator U?
USB to high speed TTL Serial / UART
footprint QFN28_5X5
pins: 0 GND (power), 1 DCD (in), 2 RI (in), 3 GND (power), 4 UD+ (io), 5 UD- (io), 6 V3 (power), 7 VDD5 (power), 8 VBUS (in), 9 RST# (in), 10 ACT# (out), 11 SUSPEND# (out), 12 SUSPEND (out), 13 NC, 14 NC, 15 NC, 16 WAKEUP/GPIO3 (io), 17 TNOW/GPIO2 (io), 18 RXS/GPIO1 (io), 19 TXS/GPIO0 (io), 20 GPIO6 (io), 21 GPIO5 (io), 22 V3 (power), 23 CTS (in), 24 RTS (out), 25 RXD (in), 26 TXD (out), 27 DSR (in), 28 DTR (out)

## CH9103M
designator U?
USB to dual enhanced TTL Serial / 2*UART
footprint QFN40_6X6
pins: 0 GND (power), 1 DSR0/GPIO0 (io), 2 DCD0/GPIO1 (io), 3 NC, 4 NC, 5 GND (power), 6 UD+ (io), 7 UD- (io), 8 VIO (power), 9 V3 (power), 10 VDD5 (power), 11 VBUS (in), 12 RST (in), 13 NC, 14 SUSPEND# (out), 15 ACT# (out), 16 DCD1/GPIO3 (io), 17 DSR1/GPIO2 (io), 18 TNOW1/GPIO11 (io), 19 NC, 20 NC, 21 TXD1 (out), 22 RXD1 (in), 23 RTS1/GPIO7 (io), 24 VIO (power), 25 GND (power), 26 CTS1/GPIO6 (io), 27 DTR1/GPIO9 (io), 28 NC, 29 NC, 30 NC, 31 NC, 32 NC, 33 NC, 34 DTR0/GPIO8 (io), 35 CTS0/GPIO4 (io), 36 RTS0/GPIO5 (io), 37 RXD0 (in), 38 TXD0 (out), 39 NC, 40 TNOW0/GPIO10 (io)

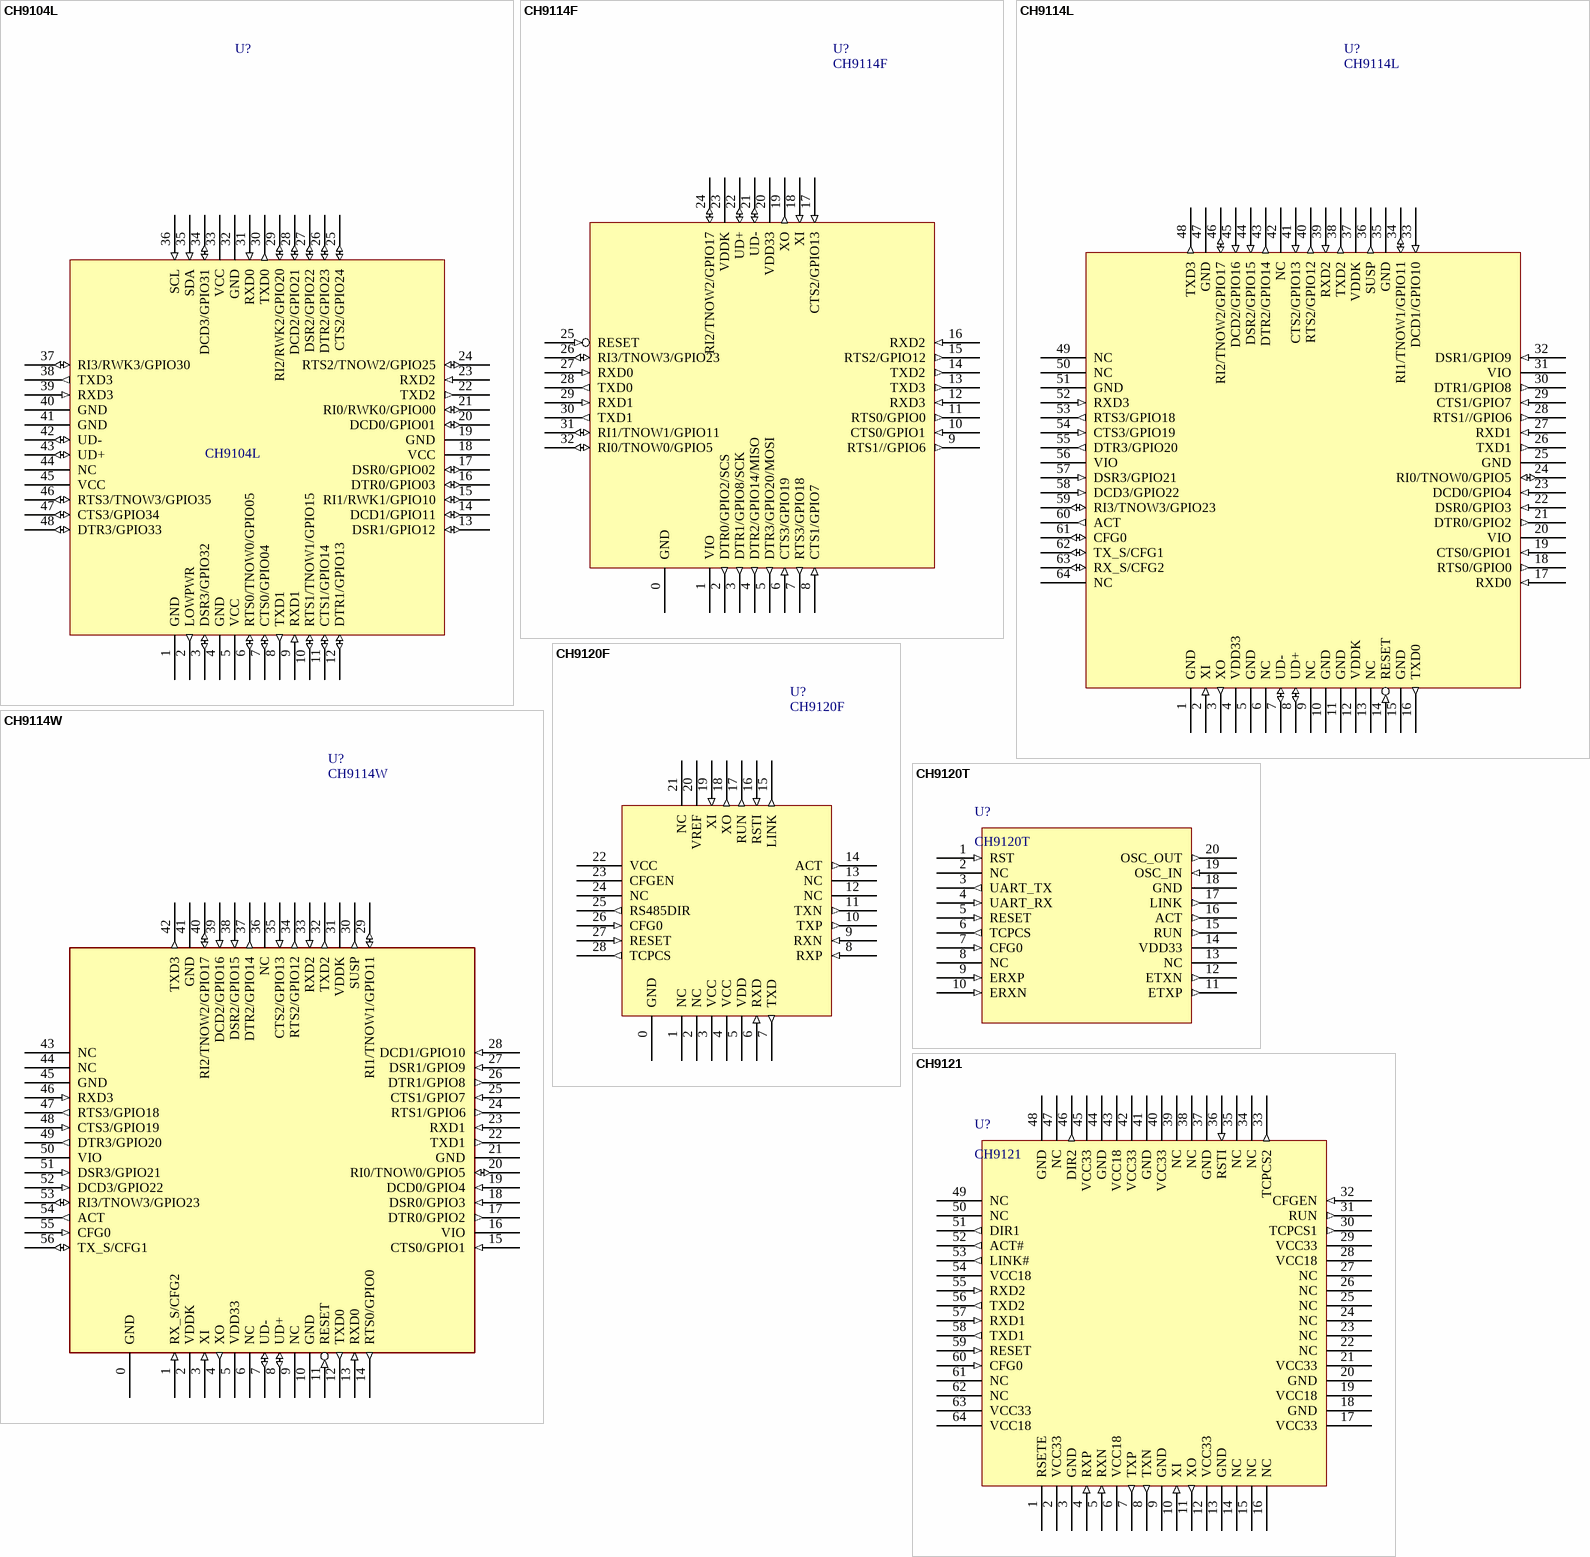
[diagram p56: symbols CH9104L to CH9121]

## CH9104L
designator U?
USB to quad serial ports / 4*UART
footprint TQFP48_7X7
pins: 1 GND (power), 2 LOWPWR (out), 3 DSR3/GPIO32 (io), 4 GND (power), 5 VCC (power), 6 RTS0/TNOW0/GPIO05 (io), 7 CTS0/GPIO04 (io), 8 TXD1 (out), 9 RXD1 (in), 10 RTS1/TNOW1/GPIO15 (io), 11 CTS1/GPIO14 (io), 12 DTR1/GPIO13 (io), 13 DSR1/GPIO12 (io), 14 DCD1/GPIO11 (io), 15 RI1/RWK1/GPIO10 (io), 16 DTR0/GPIO03 (io), 17 DSR0/GPIO02 (io), 18 VCC (power), 19 GND (power), 20 DCD0/GPIO01 (io), 21 RI0/RWK0/GPIO00 (io), 22 TXD2 (out), 23 RXD2 (in), 24 RTS2/TNOW2/GPIO25 (io), 25 CTS2/GPIO24 (io), 26 DTR2/GPIO23 (io), 27 DSR2/GPIO22 (io), 28 DCD2/GPIO21 (io), 29 RI2/RWK2/GPIO20 (io), 30 TXD0 (out), 31 RXD0 (in), 32 GND (power), 33 VCC (power), 34 DCD3/GPIO31 (io), 35 SDA (in), 36 SCL (in), 37 RI3/RWK3/GPIO30 (io), 38 TXD3 (out), 39 RXD3 (in), 40 GND (power), 41 GND (power), 42 UD- (io), 43 UD+ (io), 44 NC, 45 VCC (power), 46 RTS3/TNOW3/GPIO35 (io), 47 CTS3/GPIO34 (io), 48 DTR3/GPIO33 (io)

## CH9114F
designator U?
high-speed USB to quad UART & SPI
footprint QFN32_4X4
pins: 0 GND (power), 1 VIO (power), 2 DTR0/GPIO2/SCS (out), 3 DTR1/GPIO8/SCK (out), 4 DTR2/GPIO14/MISO (out), 5 DTR3/GPIO20/MOSI (out), 6 CTS3/GPIO19 (in), 7 RTS3/GPIO18 (out), 8 CTS1/GPIO7 (in), 9 RTS1//GPIO6 (out), 10 CTS0/GPIO1 (in), 11 RTS0/GPIO0 (out), 12 RXD3 (in), 13 TXD3 (out), 14 TXD2 (out), 15 RTS2/GPIO12 (out), 16 RXD2 (in), 17 CTS2/GPIO13 (in), 18 XI (in), 19 XO (out), 20 VDD33 (power), 21 UD- (io), 22 UD+ (io), 23 VDDK (power), 24 RI2/TNOW2/GPIO17 (io), 25 RESET (in), 26 RI3/TNOW3/GPIO23 (io), 27 RXD0 (in), 28 TXD0 (out), 29 RXD1 (in), 30 TXD1 (out), 31 RI1/TNOW1/GPIO11 (io), 32 RI0/TNOW0/GPIO5 (io)
2 alternate drawings of the same symbol

## CH9114L
designator U?
high-speed USB to quad UART & dual SPI
footprint LQFP64M_10X10
pins: 1 GND (power), 2 XI (in), 3 XO (out), 4 VDD33 (power), 5 GND (power), 6 NC, 7 UD- (io), 8 UD+ (io), 9 NC, 10 GND (power), 11 GND (power), 12 VDDK (power), 13 NC, 14 RESET (in), 15 GND (power), 16 TXD0 (out), 17 RXD0 (in), 18 RTS0/GPIO0 (out), 19 CTS0/GPIO1 (in), 20 VIO (power), 21 DTR0/GPIO2 (out), 22 DSR0/GPIO3 (in), 23 DCD0/GPIO4 (in), 24 RI0/TNOW0/GPIO5 (io), 25 GND (power), 26 TXD1 (out), 27 RXD1 (in), 28 RTS1//GPIO6 (out), 29 CTS1/GPIO7 (in), 30 DTR1/GPIO8 (out), 31 VIO (power), 32 DSR1/GPIO9 (in), 33 DCD1/GPIO10 (in), 34 RI1/TNOW1/GPIO11 (io), 35 GND (power), 36 SUSP (out), 37 VDDK (power), 38 TXD2 (out), 39 RXD2 (in), 40 RTS2/GPIO12 (out), 41 CTS2/GPIO13 (in), 42 NC, 43 DTR2/GPIO14 (out), 44 DSR2/GPIO15 (in), 45 DCD2/GPIO16 (in), 46 RI2/TNOW2/GPIO17 (io), 47 GND (power), 48 TXD3 (out), 49 NC, 50 NC, 51 GND (power), 52 RXD3 (in), 53 RTS3/GPIO18 (out), 54 CTS3/GPIO19 (in), 55 DTR3/GPIO20 (out), 56 VIO (power), 57 DSR3/GPIO21 (in), 58 DCD3/GPIO22 (in), 59 RI3/TNOW3/GPIO23 (io), 60 ACT (out), 61 CFG0 (io), 62 TX_S/CFG1 (io), 63 RX_S/CFG2 (io), 64 NC
2 alternate drawings of the same symbol

## CH9114W
designator U?
high-speed USB to quad UART & dual SPI
footprint QFN56_7X7
pins: 0 GND (power), 1 RX_S/CFG2 (in), 2 VDDK (power), 3 XI (in), 4 XO (out), 5 VDD33 (power), 6 NC, 7 UD- (io), 8 UD+ (io), 9 NC, 10 GND (power), 11 RESET (in), 12 TXD0 (out), 13 RXD0 (in), 14 RTS0/GPIO0 (out), 15 CTS0/GPIO1 (in), 16 VIO (power), 17 DTR0/GPIO2 (out), 18 DSR0/GPIO3 (in), 19 DCD0/GPIO4 (in), 20 RI0/TNOW0/GPIO5 (io), 21 GND (power), 22 TXD1 (out), 23 RXD1 (in), 24 RTS1/GPIO6 (out), 25 CTS1/GPIO7 (in), 26 DTR1/GPIO8 (out), 27 DSR1/GPIO9 (in), 28 DCD1/GPIO10 (in), 29 RI1/TNOW1/GPIO11 (io), 30 SUSP (out), 31 VDDK (power), 32 TXD2 (out), 33 RXD2 (in), 34 RTS2/GPIO12 (out), 35 CTS2/GPIO13 (in), 36 NC, 37 DTR2/GPIO14 (out), 38 DSR2/GPIO15 (in), 39 DCD2/GPIO16 (in), 40 RI2/TNOW2/GPIO17 (io), 41 GND (power), 42 TXD3 (out), 43 NC, 44 NC, 45 GND (power), 46 RXD3 (in), 47 RTS3/GPIO18 (out), 48 CTS3/GPIO19 (in), 49 DTR3/GPIO20 (out), 50 VIO (power), 51 DSR3/GPIO21 (in), 52 DCD3/GPIO22 (in), 53 RI3/TNOW3/GPIO23 (io), 54 ACT (out), 55 CFG0 (in), 56 TX_S/CFG1 (io)
2 alternate drawings of the same symbol

## CH9120F
designator U?
TTL serail / UART to 10Mbps ethernet
footprint QFN28_4X4
pins: 0 GND (power), 1 NC, 2 NC, 3 VCC (power), 4 VCC (power), 5 VDD (power), 6 RXD (in), 7 TXD (out), 8 RXP (in), 9 RXN (in), 10 TXP (out), 11 TXN (out), 12 NC, 13 NC, 14 ACT (out), 15 LINK (out), 16 RSTI (in), 17 RUN (out), 18 XO (out), 19 XI (in), 20 VREF (power), 21 NC, 22 VCC (power), 23 CFGEN, 24 NC, 25 RS485DIR (out), 26 CFG0 (in), 27 RESET (in), 28 TCPCS (out)

## CH9120T
designator U?
TTL serail / UART to 10Mbps ethernet
footprint TSSOP20
pins: 1 RST (in), 2 NC, 3 UART_TX (out), 4 UART_RX (in), 5 RESET (in), 6 TCPCS (out), 7 CFG0 (in), 8 NC, 9 ERXP (in), 10 ERXN (in), 11 ETXP (out), 12 ETXN (out), 13 NC, 14 VDD33 (power), 15 RUN (out), 16 ACT (out), 17 LINK (out), 18 GND (power), 19 OSC_IN (in), 20 OSC_OUT (out)

## CH9121
designator U?
dual TTL serail / 2*UART to 10Mbps/100Mbps Ethernet
footprint LQFP64M_10X10
pins: 1 RSETE, 2 VCC33 (power), 3 GND, 4 RXP (in), 5 RXN (in), 6 VCC18 (power), 7 TXP (out), 8 TXN (out), 9 GND (power), 10 XI (in), 11 XO (out), 12 VCC33 (power), 13 GND (power), 14 NC, 15 NC, 16 NC, 17 VCC33 (power), 18 GND (power), 19 VCC18 (power), 20 GND (power), 21 VCC33 (power), 22 NC, 23 NC, 24 NC, 25 NC, 26 NC, 27 NC, 28 VCC18 (power), 29 VCC33 (power), 30 TCPCS1 (out), 31 RUN (out), 32 CFGEN (in), 33 TCPCS2 (out), 34 NC, 35 NC, 36 RSTI (in), 37 GND (power), 38 NC, 39 NC, 40 VCC33 (power), 41 GND (power), 42 VCC33 (power), 43 VCC18 (power), 44 GND (power), 45 VCC33 (power), 46 DIR2 (out), 47 NC, 48 GND (power), 49 NC, 50 NC, 51 DIR1 (out), 52 ACT# (out), 53 LINK# (out), 54 VCC18 (power), 55 RXD2 (in), 56 TXD2 (out), 57 RXD1 (in), 58 TXD1 (out), 59 RESET (in), 60 CFG0 (in), 61 NC, 62 NC, 63 VCC33 (power), 64 VCC18 (power)

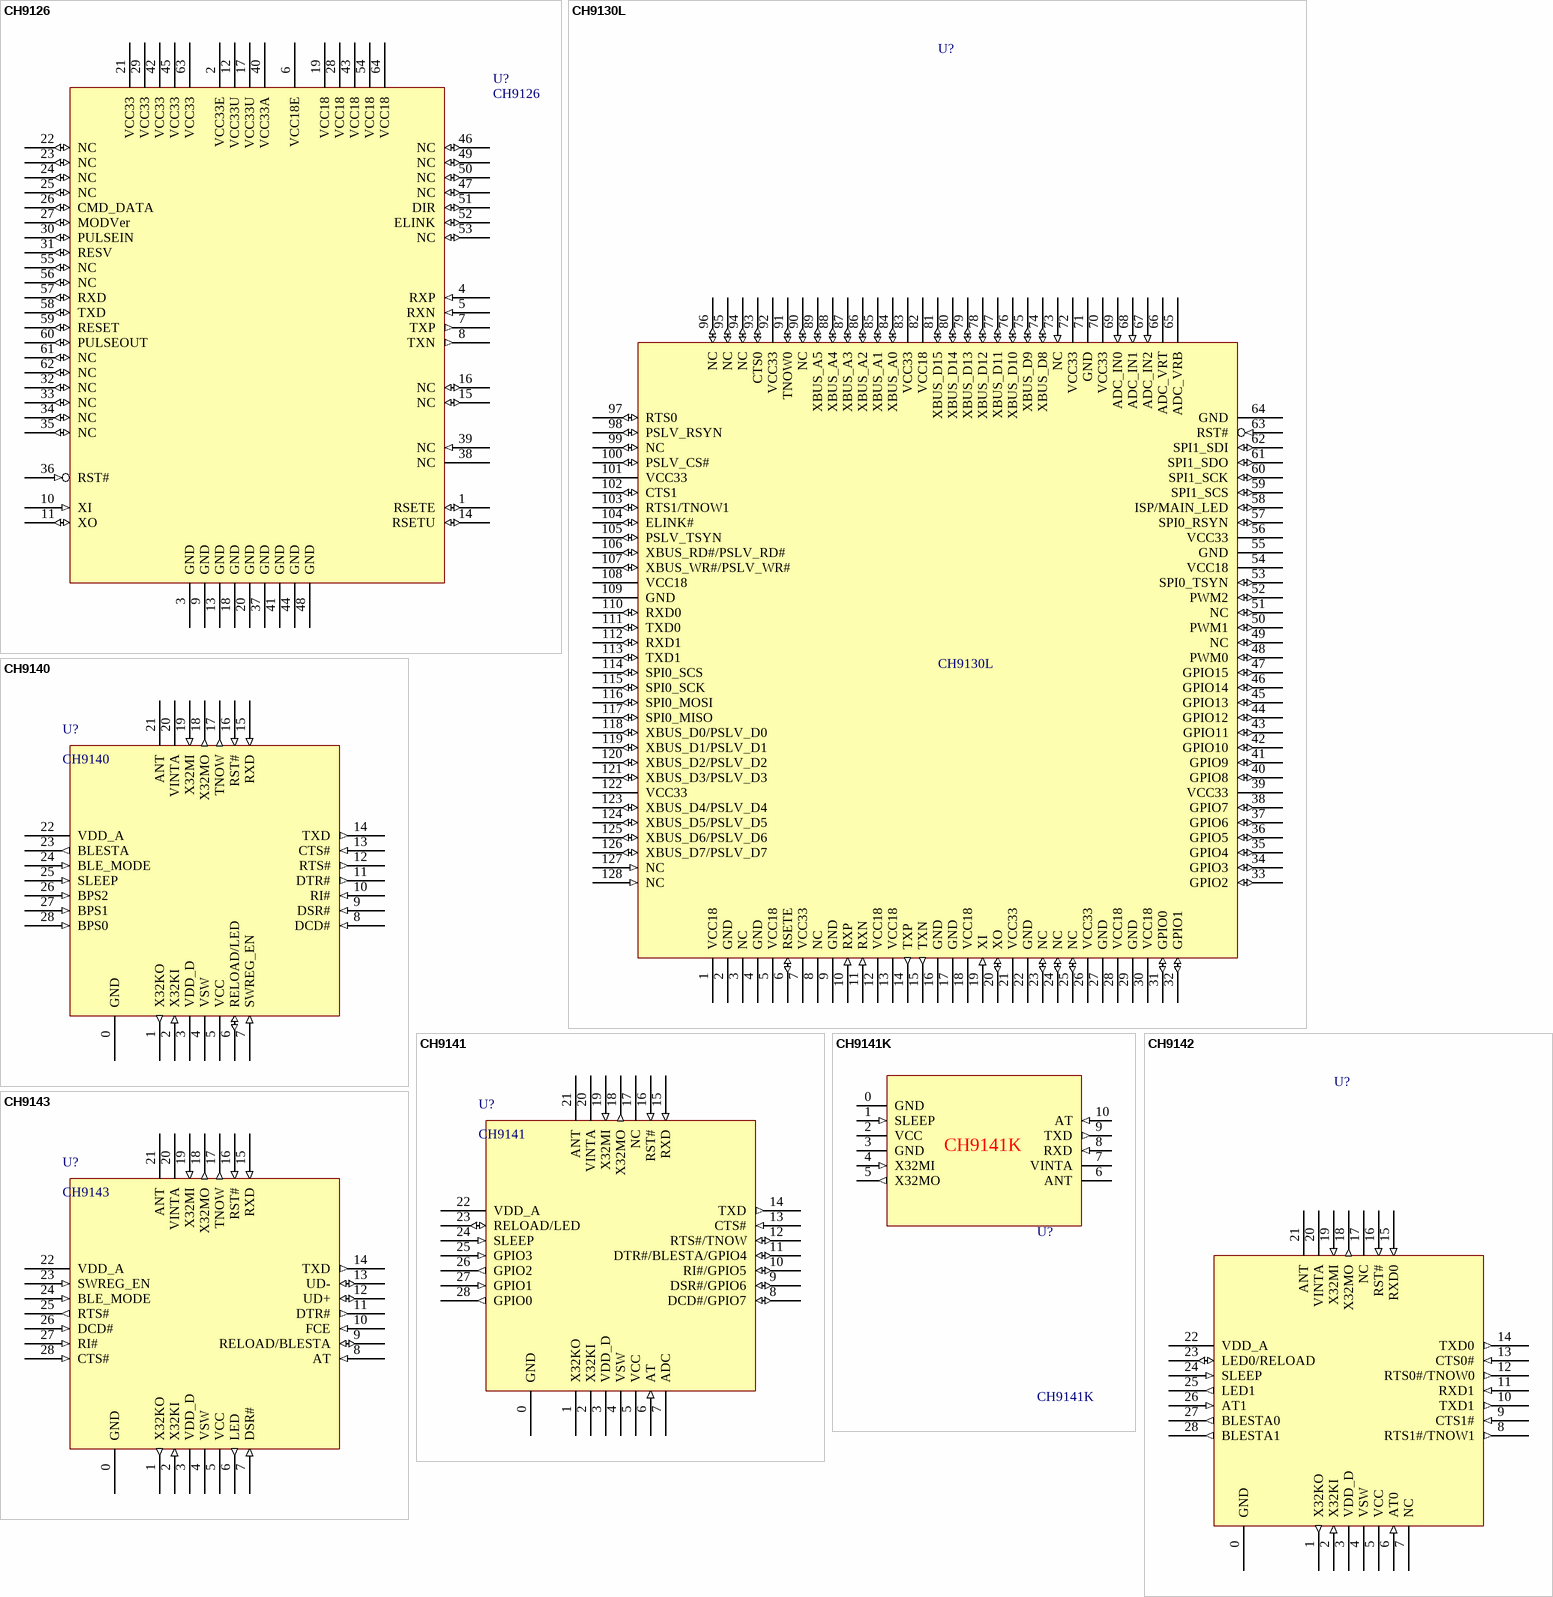
[diagram p57: symbols CH9126 to CH9143]

## CH9126
designator U?
SNTP via 100Mbps Ethernet
footprint LQFP64M_10X10
pins: 1 RSETE (io), 2 VCC33E (power), 3 GND (power), 4 RXP (in), 5 RXN (in), 6 VCC18E (power), 7 TXP (out), 8 TXN (out), 9 GND (power), 10 XI (in), 11 XO (io), 12 VCC33U (power), 13 GND (power), 14 RSETU (io), 15 NC (io), 16 NC (io), 17 VCC33U (power), 18 GND (power), 19 VCC18 (power), 20 GND (power), 21 VCC33 (power), 22 NC (io), 23 NC (io), 24 NC (io), 25 NC (io), 26 CMD_DATA (io), 27 MODVer (io), 28 VCC18 (power), 29 VCC33 (power), 30 PULSEIN (io), 31 RESV (io), 32 NC (io), 33 NC (io), 34 NC (io), 35 NC (io), 36 RST# (in), 37 GND (power), 38 NC (power), 39 NC (in), 40 VCC33A (power), 41 GND (power), 42 VCC33 (power), 43 VCC18 (power), 44 GND (power), 45 VCC33 (power), 46 NC (io), 47 NC (io), 48 GND (power), 49 NC (io), 50 NC (io), 51 DIR (io), 52 ELINK (io), 53 NC (io), 54 VCC18 (power), 55 NC (io), 56 NC (io), 57 RXD (io), 58 TXD (io), 59 RESET (io), 60 PULSEOUT (io), 61 NC (io), 62 NC (io), 63 VCC33 (power), 64 VCC18 (power)
2 alternate drawings of the same symbol